# Altium integrated library Altera APEX 20KE.IntLib: 235 symbols (part 21 of 49)
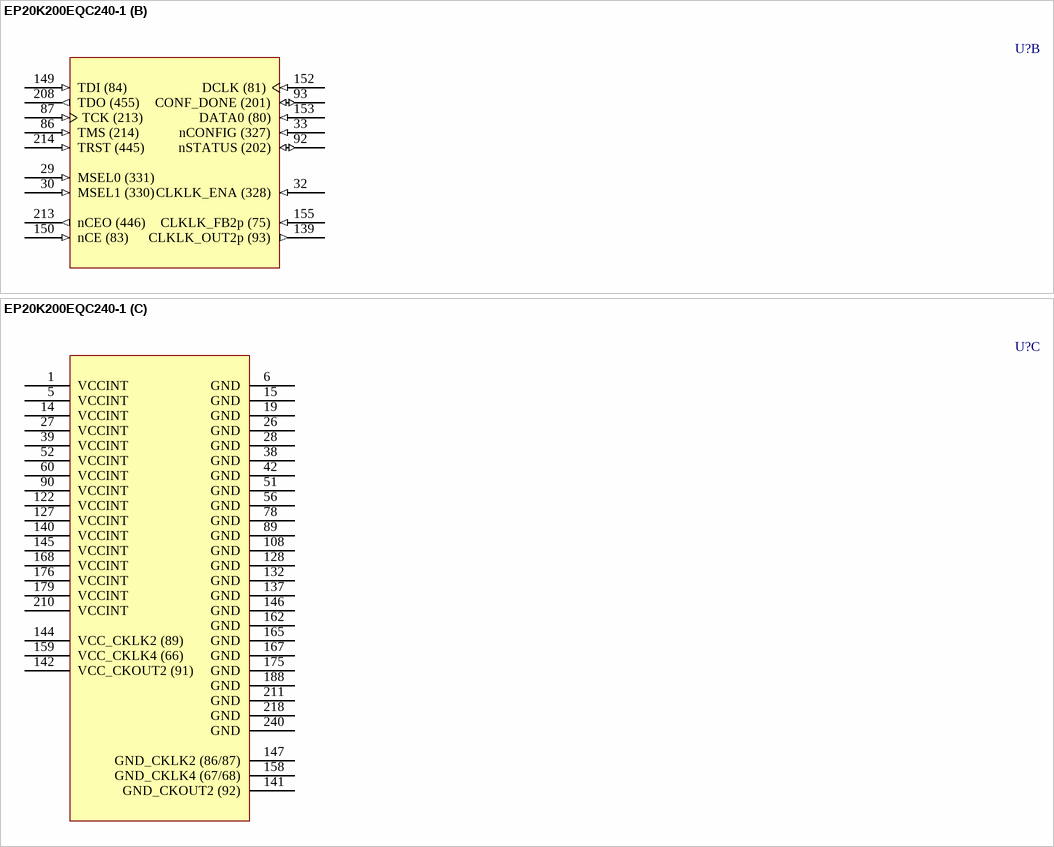
[diagram p419: symbol EP20K200EQC240-1]

## EP20K200EQC240-1
designator U?
APEX 20K200E PLD, 240-Pin PQFP, Commercial Grade, Speed Grade 1; Published: 17-Jul-2002; LatestRevisionDate: 13-Apr-2006; LatestRevisionNote: IPC-7351 Footprint Added.; DatasheetVersion: Mar-2004; PackageVersion: ver14.1, Oct-2005; PackageReference: PQFP240; Publisher: Altium Limited; PackageDescription: 240-Pin Plastic Quad Flat Pack (PQFP240); Code_JEDEC: MS-029-GA; ComponentLink1Description: Manufacturer Link; ComponentLink1URL: http://www.altera.com/products/devices/apex/apx-index.html; ComponentLink2Description: Datasheet; ComponentLink2URL: http://www.altera.com/literature/ds/apex.pdf
footprint PQFP240_N (Shrink QFP, 240-Leads, Body 32x32mm, Pitch 0.5mm, IPC Medium Density)
footprint PQFP240_L (Shrink QFP, 240-Leads, Body 32x32mm, Pitch 0.5mm, IPC High Density)
footprint PQFP240_M (Shrink QFP, 240-Leads, Body 32x32mm, Pitch 0.5mm, IPC Low Density)
3D model EP20K200E-PQFP240 (240-Pin Plastic Quad Flat Pack (PQFP240))
part A pins: 2 IO (407) (io), 3 IO (401) (io), 4 IO (395) (io), 7 IO (391) (io), 8 IO (389) (io), 9 IO (385) (io), 10 IO (383) (io), 11 IO (377) (io), 12 VCCIO3 (power), 13 IO (371) (io), 16 IO (365) (io), 17 IO (359) (io), 18 IO (357) (io), 20 IO (353) (io), 21 IO (351) (io), 22 IO (347) (io), 23 IO (345) (io), 24 IO (341) (io), 25 IO (333) (io), 31 CLK1p (329) (in), 34 CLK3p (324) (in), 35 IO (322) (io), 36 IO (319) (io), 37 IO (318) (io), 40 IO (311) (io), 41 IO (305) (io), 43 IO (301) (io), 44 IO (299) (io), 45 VCCIO4 (power), 46 IO (295) (io), 47 IO (293) (io), 48 IO (287) (io), 49 IO (281) (io), 50 IO (279) (io), 53 IO (275) (io), 54 IO (269) (io), 55 IO (264) (io), 57 IO (259) (io), 58 IO (257) (io), 59 IO (251) (io), 61 IO (247) (io), 62 IO (245) (io), 63 IO (244) (io), 64 IO (242) (io), 65 IO (240) (io), 66 IO (238) (io), 67 VCCIO5 (power), 68 IO (235) (io), 69 IO (234) (io), 70 IO (233) (io), 71 IO (232) (io), 72 IO (231) (io), 73 IO (229) (io), 74 IO (227) (io), 75 IO (226) (io), 76 IO (224) (io), 77 IO (223) (io), 79 IO (222) (io), 80 IO (221) (io), 81 IO (220) (io), 82 IO (218) (io), 83 IO (217) (io), 84 IO (216) (io), 85 IO (215) (io), 88 FAST3 (212) (io), 91 FAST4 (203) (io), 94 IO (200) (io), 95 IO (198) (io), 96 IO (197) (io), 97 VCCIO6 (power), 98 IO (195) (io), 99 IO (194) (io), 100 IO (193) (io), 101 IO (191) (io), 102 IO (190) (io), 103 IO (187) (io), 104 IO (186) (io), 105 IO (185) (io), 106 IO (184) (io), 107 IO (183) (io), 109 IO (181) (io), 110 IO (180) (io), 111 IO (179) (io), 112 IO (177) (io), 113 IO (176) (io), 114 IO (175) (io), 115 IO (173) (io), 116 IO (171) (io), 117 IO (170) (io), 118 IO (169) (io), 119 IO (168) (io), 120 VCCIO6 (power), 121 IO (164) (io), 123 IO (158) (io), 124 IO (152) (io), 125 IO (146) (io), 126 IO (140) (io), 129 IO (134) (io), 130 IO (130) (io), 131 IO (128) (io), 133 IO (123) (io), 134 IO (116) (io), 135 IO/LOCK4 (110) (io), 136 IO (108) (io), 138 IO/LOCK2 (98) (io), 143 IO/DEV_OE (90) (io), 148 VCCIO7 (power), 151 CLK2p (82) (in), 154 CLK4p (77) (in), 156 IO/DEV_CLRn (71) (io), 157 IO/CS (69) (io), 160 IO/nCS (56) (io), 161 IO/nRS (50) (io), 163 IO (44) (io), 164 IO/nWS (38) (io), 166 IO/DATA7 (32) (io), 169 IO/DATA6 (26) (io), 170 IO (24) (io), 171 IO (20) (io), 172 IO (18) (io), 173 IO (14) (io), 174 IO (12) (io), 177 VCCIO8 (power), 178 IO (8) (io), 180 IO (2) (io), 181 IO/DATA5 (489) (io), 182 IO (488) (io), 183 IO (487) (io), 184 IO (486) (io), 185 IO/DATA4 (485) (io), 186 IO (483) (io), 187 IO (482) (io), 189 IO/DATA3 (481) (io), 190 IO (480) (io), 191 IO (478) (io), 192 IO (476) (io), 193 IO (475) (io), 194 IO (474) (io), 195 IO/DATA2 (472) (io), 196 IO (471) (io), 197 IO (470) (io), 198 IO (469) (io), 199 VCCIO1 (power), 200 IO/DATA1 (465) (io), 201 IO (464) (io), 202 IO (463) (io), 203 IO (462) (io), 204 IO/CLKUSR (461) (io), 205 IO/RDYnBSY (459) (io), 206 IO/INIT_DONE (458) (io), 207 IO (457) (io), 209 FAST2 (454) (io), 212 FAST1 (447) (io), 215 IO (444) (io), 216 IO (443) (io), 217 IO (442) (io), 219 IO (439) (io), 220 IO (437) (io), 221 IO (436) (io), 222 IO (435) (io), 223 IO (434) (io), 224 IO (432) (io), 225 IO (431) (io), 226 IO (430) (io), 227 IO (429) (io), 228 IO (427) (io), 229 VCCIO2 (power), 230 IO (424) (io), 231 IO (423) (io), 232 IO (422) (io), 233 IO (420) (io), 234 IO (419) (io), 235 IO (417) (io), 236 IO (415) (io), 237 IO (413) (io), 238 IO (412) (io), 239 IO (411) (io)
part B pins: 29 MSEL0 (331) (in), 30 MSEL1 (330) (in), 32 CLKLK_ENA (328) (in), 33 nCONFIG (327) (in), 86 TMS (214) (in), 87 TCK (213) (in), 92 nSTATUS (202) (io), 93 CONF_DONE (201) (io), 139 CLKLK_OUT2p (93) (out), 149 TDI (84) (in), 150 nCE (83) (in), 152 DCLK (81) (in), 153 DATA0 (80) (in), 155 CLKLK_FB2p (75) (in), 208 TDO (455) (out), 213 nCEO (446) (out), 214 TRST (445) (in)
part C pins: 1 VCCINT (power), 5 VCCINT (power), 6 GND (power), 14 VCCINT (power), 15 GND (power), 19 GND (power), 26 GND (power), 27 VCCINT (power), 28 GND (power), 38 GND (power), 39 VCCINT (power), 42 GND (power), 51 GND (power), 52 VCCINT (power), 56 GND (power), 60 VCCINT (power), 78 GND (power), 89 GND (power), 90 VCCINT (power), 108 GND (power), 122 VCCINT (power), 127 VCCINT (power), 128 GND (power), 132 GND (power), 137 GND (power), 140 VCCINT (power), 141 GND_CKOUT2 (92) (power), 142 VCC_CKOUT2 (91) (power), 144 VCC_CKLK2 (89) (power), 145 VCCINT (power), 146 GND (power), 147 GND_CKLK2 (86/87) (power), 158 GND_CKLK4 (67/68) (power), 159 VCC_CKLK4 (66) (power), 162 GND (power), 165 GND (power), 167 GND (power), 168 VCCINT (power), 175 GND (power), 176 VCCINT (power), 179 VCCINT (power), 188 GND (power), 210 VCCINT (power), 211 GND (power), 218 GND (power), 240 GND (power)

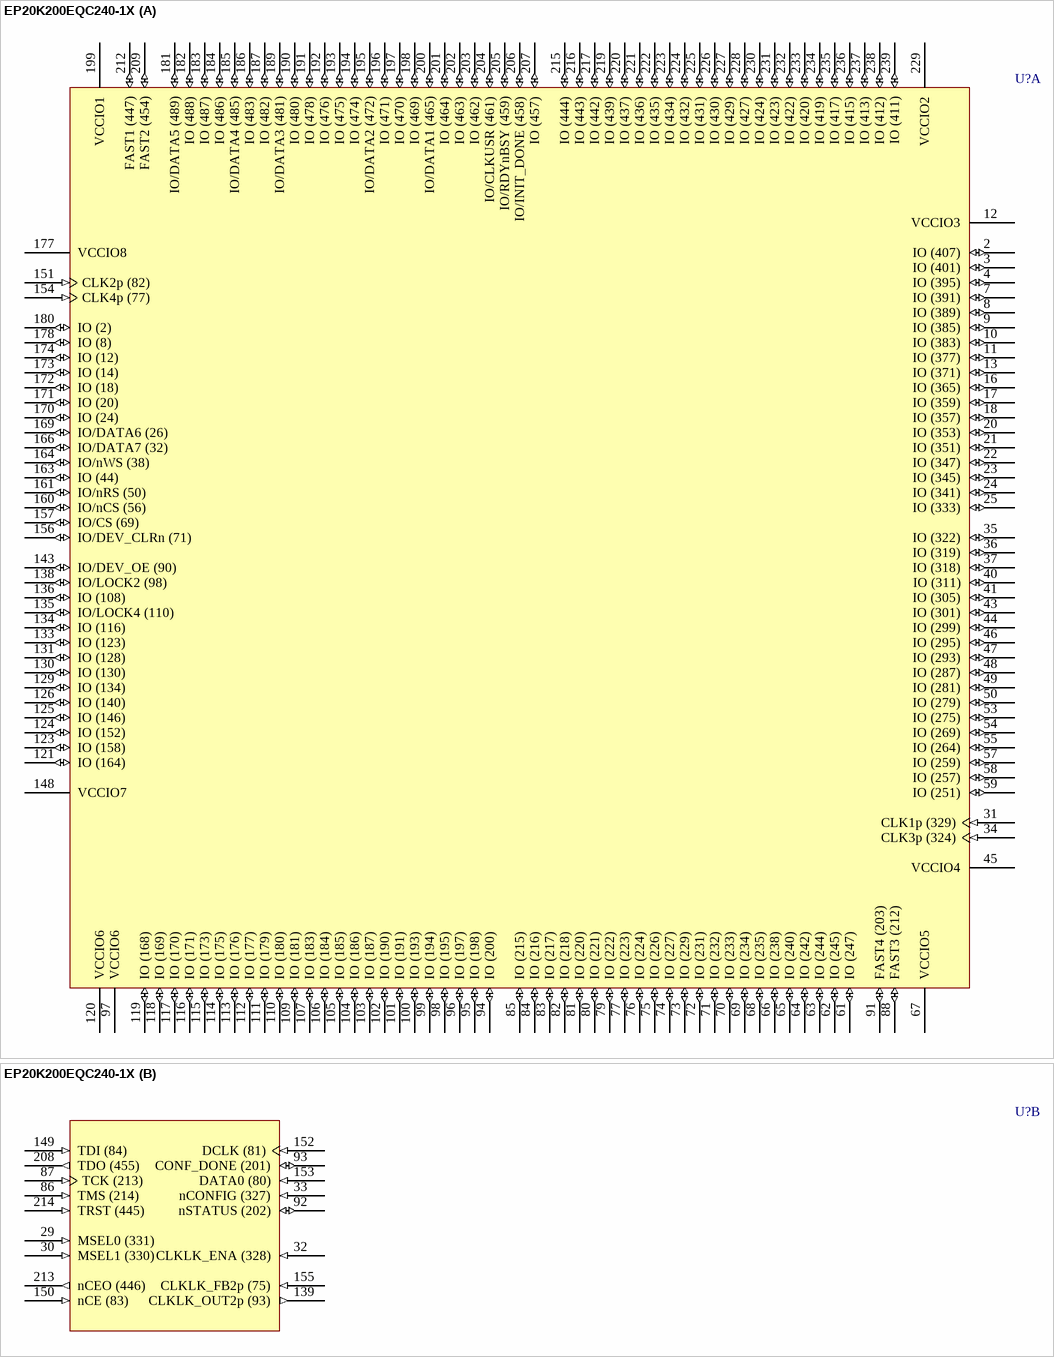
[diagram p208: symbol EP20K200EQC240-1X]

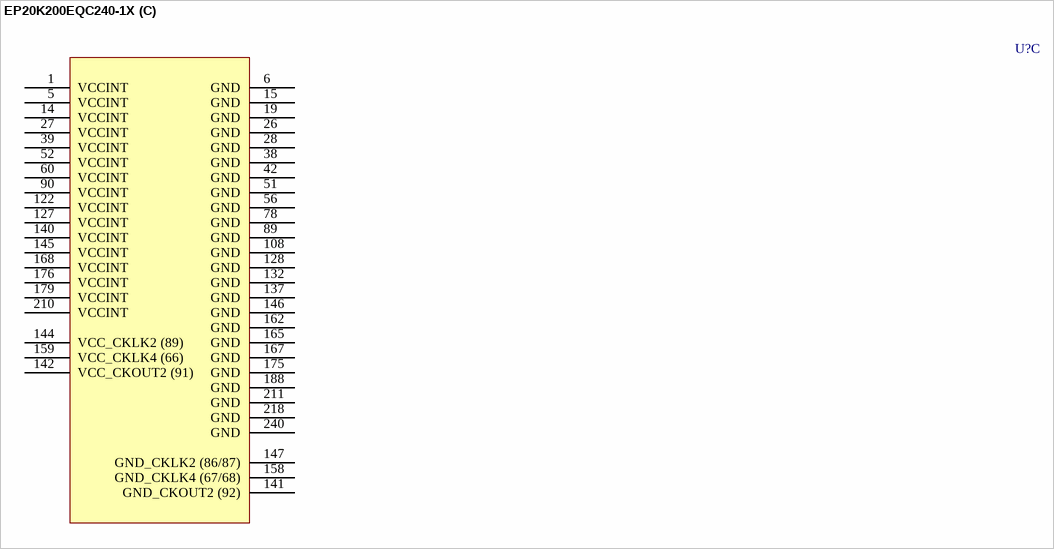
[diagram p209: symbol EP20K200EQC240-1X]

## EP20K200EQC240-1X
designator U?
APEX 20K200E PLD with PLLs and LVDS, 240-Pin PQFP, Commercial Grade, Speed Grade 1; Published: 17-Jul-2002; LatestRevisionDate: 13-Apr-2006; LatestRevisionNote: IPC-7351 Footprint Added.; DatasheetVersion: Mar-2004; PackageVersion: ver14.1, Oct-2005; PackageReference: PQFP240; Publisher: Altium Limited; PackageDescription: 240-Pin Plastic Quad Flat Pack (PQFP240); Code_JEDEC: MS-029-GA; ComponentLink1Description: Manufacturer Link; ComponentLink1URL: http://www.altera.com/products/devices/apex/apx-index.html; ComponentLink2Description: Datasheet; ComponentLink2URL: http://www.altera.com/literature/ds/apex.pdf
footprint PQFP240_N (Shrink QFP, 240-Leads, Body 32x32mm, Pitch 0.5mm, IPC Medium Density)
footprint PQFP240_L (Shrink QFP, 240-Leads, Body 32x32mm, Pitch 0.5mm, IPC High Density)
footprint PQFP240_M (Shrink QFP, 240-Leads, Body 32x32mm, Pitch 0.5mm, IPC Low Density)
3D model EP20K200E-PQFP240 (240-Pin Plastic Quad Flat Pack (PQFP240))
part A pins: 2 IO (407) (io), 3 IO (401) (io), 4 IO (395) (io), 7 IO (391) (io), 8 IO (389) (io), 9 IO (385) (io), 10 IO (383) (io), 11 IO (377) (io), 12 VCCIO3 (power), 13 IO (371) (io), 16 IO (365) (io), 17 IO (359) (io), 18 IO (357) (io), 20 IO (353) (io), 21 IO (351) (io), 22 IO (347) (io), 23 IO (345) (io), 24 IO (341) (io), 25 IO (333) (io), 31 CLK1p (329) (in), 34 CLK3p (324) (in), 35 IO (322) (io), 36 IO (319) (io), 37 IO (318) (io), 40 IO (311) (io), 41 IO (305) (io), 43 IO (301) (io), 44 IO (299) (io), 45 VCCIO4 (power), 46 IO (295) (io), 47 IO (293) (io), 48 IO (287) (io), 49 IO (281) (io), 50 IO (279) (io), 53 IO (275) (io), 54 IO (269) (io), 55 IO (264) (io), 57 IO (259) (io), 58 IO (257) (io), 59 IO (251) (io), 61 IO (247) (io), 62 IO (245) (io), 63 IO (244) (io), 64 IO (242) (io), 65 IO (240) (io), 66 IO (238) (io), 67 VCCIO5 (power), 68 IO (235) (io), 69 IO (234) (io), 70 IO (233) (io), 71 IO (232) (io), 72 IO (231) (io), 73 IO (229) (io), 74 IO (227) (io), 75 IO (226) (io), 76 IO (224) (io), 77 IO (223) (io), 79 IO (222) (io), 80 IO (221) (io), 81 IO (220) (io), 82 IO (218) (io), 83 IO (217) (io), 84 IO (216) (io), 85 IO (215) (io), 88 FAST3 (212) (io), 91 FAST4 (203) (io), 94 IO (200) (io), 95 IO (198) (io), 96 IO (197) (io), 97 VCCIO6 (power), 98 IO (195) (io), 99 IO (194) (io), 100 IO (193) (io), 101 IO (191) (io), 102 IO (190) (io), 103 IO (187) (io), 104 IO (186) (io), 105 IO (185) (io), 106 IO (184) (io), 107 IO (183) (io), 109 IO (181) (io), 110 IO (180) (io), 111 IO (179) (io), 112 IO (177) (io), 113 IO (176) (io), 114 IO (175) (io), 115 IO (173) (io), 116 IO (171) (io), 117 IO (170) (io), 118 IO (169) (io), 119 IO (168) (io), 120 VCCIO6 (power), 121 IO (164) (io), 123 IO (158) (io), 124 IO (152) (io), 125 IO (146) (io), 126 IO (140) (io), 129 IO (134) (io), 130 IO (130) (io), 131 IO (128) (io), 133 IO (123) (io), 134 IO (116) (io), 135 IO/LOCK4 (110) (io), 136 IO (108) (io), 138 IO/LOCK2 (98) (io), 143 IO/DEV_OE (90) (io), 148 VCCIO7 (power), 151 CLK2p (82) (in), 154 CLK4p (77) (in), 156 IO/DEV_CLRn (71) (io), 157 IO/CS (69) (io), 160 IO/nCS (56) (io), 161 IO/nRS (50) (io), 163 IO (44) (io), 164 IO/nWS (38) (io), 166 IO/DATA7 (32) (io), 169 IO/DATA6 (26) (io), 170 IO (24) (io), 171 IO (20) (io), 172 IO (18) (io), 173 IO (14) (io), 174 IO (12) (io), 177 VCCIO8 (power), 178 IO (8) (io), 180 IO (2) (io), 181 IO/DATA5 (489) (io), 182 IO (488) (io), 183 IO (487) (io), 184 IO (486) (io), 185 IO/DATA4 (485) (io), 186 IO (483) (io), 187 IO (482) (io), 189 IO/DATA3 (481) (io), 190 IO (480) (io), 191 IO (478) (io), 192 IO (476) (io), 193 IO (475) (io), 194 IO (474) (io), 195 IO/DATA2 (472) (io), 196 IO (471) (io), 197 IO (470) (io), 198 IO (469) (io), 199 VCCIO1 (power), 200 IO/DATA1 (465) (io), 201 IO (464) (io), 202 IO (463) (io), 203 IO (462) (io), 204 IO/CLKUSR (461) (io), 205 IO/RDYnBSY (459) (io), 206 IO/INIT_DONE (458) (io), 207 IO (457) (io), 209 FAST2 (454) (io), 212 FAST1 (447) (io), 215 IO (444) (io), 216 IO (443) (io), 217 IO (442) (io), 219 IO (439) (io), 220 IO (437) (io), 221 IO (436) (io), 222 IO (435) (io), 223 IO (434) (io), 224 IO (432) (io), 225 IO (431) (io), 226 IO (430) (io), 227 IO (429) (io), 228 IO (427) (io), 229 VCCIO2 (power), 230 IO (424) (io), 231 IO (423) (io), 232 IO (422) (io), 233 IO (420) (io), 234 IO (419) (io), 235 IO (417) (io), 236 IO (415) (io), 237 IO (413) (io), 238 IO (412) (io), 239 IO (411) (io)
part B pins: 29 MSEL0 (331) (in), 30 MSEL1 (330) (in), 32 CLKLK_ENA (328) (in), 33 nCONFIG (327) (in), 86 TMS (214) (in), 87 TCK (213) (in), 92 nSTATUS (202) (io), 93 CONF_DONE (201) (io), 139 CLKLK_OUT2p (93) (out), 149 TDI (84) (in), 150 nCE (83) (in), 152 DCLK (81) (in), 153 DATA0 (80) (in), 155 CLKLK_FB2p (75) (in), 208 TDO (455) (out), 213 nCEO (446) (out), 214 TRST (445) (in)
part C pins: 1 VCCINT (power), 5 VCCINT (power), 6 GND (power), 14 VCCINT (power), 15 GND (power), 19 GND (power), 26 GND (power), 27 VCCINT (power), 28 GND (power), 38 GND (power), 39 VCCINT (power), 42 GND (power), 51 GND (power), 52 VCCINT (power), 56 GND (power), 60 VCCINT (power), 78 GND (power), 89 GND (power), 90 VCCINT (power), 108 GND (power), 122 VCCINT (power), 127 VCCINT (power), 128 GND (power), 132 GND (power), 137 GND (power), 140 VCCINT (power), 141 GND_CKOUT2 (92) (power), 142 VCC_CKOUT2 (91) (power), 144 VCC_CKLK2 (89) (power), 145 VCCINT (power), 146 GND (power), 147 GND_CKLK2 (86/87) (power), 158 GND_CKLK4 (67/68) (power), 159 VCC_CKLK4 (66) (power), 162 GND (power), 165 GND (power), 167 GND (power), 168 VCCINT (power), 175 GND (power), 176 VCCINT (power), 179 VCCINT (power), 188 GND (power), 210 VCCINT (power), 211 GND (power), 218 GND (power), 240 GND (power)

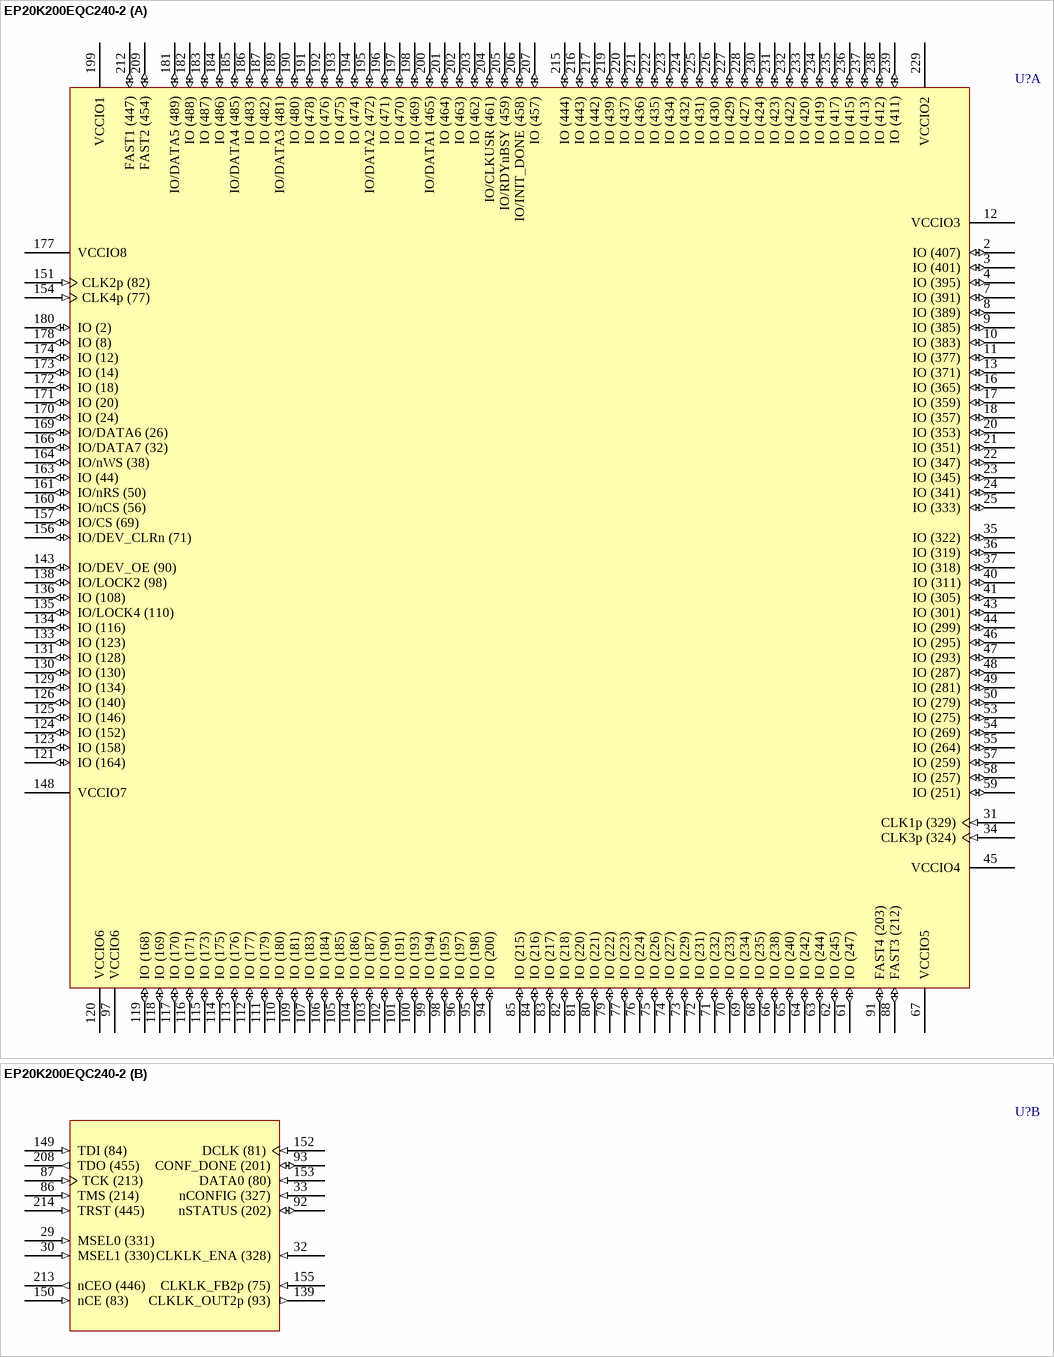
[diagram p210: symbol EP20K200EQC240-2]

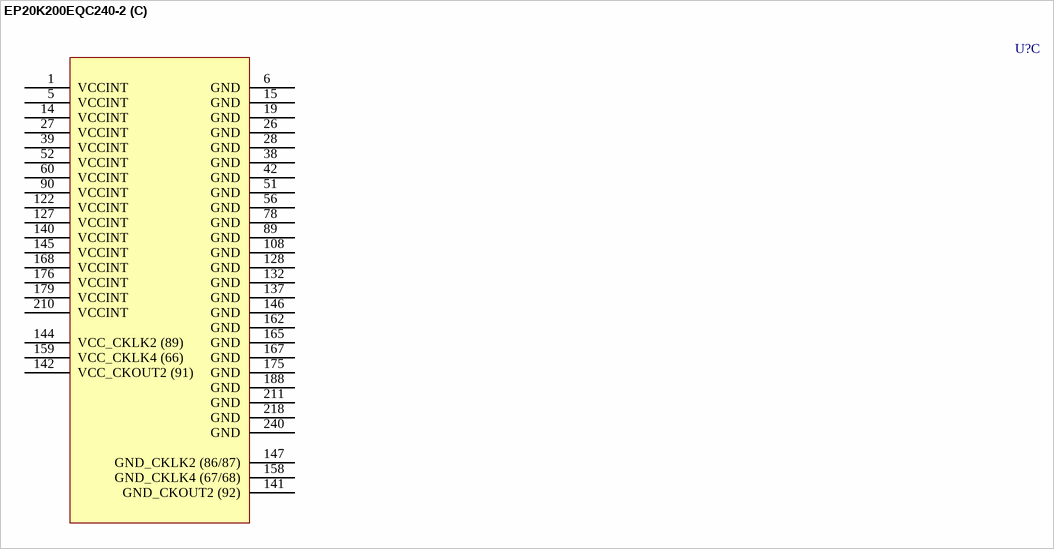
[diagram p211: symbol EP20K200EQC240-2]

## EP20K200EQC240-2
designator U?
APEX 20K200E PLD, 240-Pin PQFP, Commercial Grade, Speed Grade 2; Published: 17-Jul-2002; LatestRevisionDate: 13-Apr-2006; LatestRevisionNote: IPC-7351 Footprint Added.; DatasheetVersion: Mar-2004; PackageVersion: ver14.1, Oct-2005; PackageReference: PQFP240; Publisher: Altium Limited; PackageDescription: 240-Pin Plastic Quad Flat Pack (PQFP240); Code_JEDEC: MS-029-GA; ComponentLink1Description: Manufacturer Link; ComponentLink1URL: http://www.altera.com/products/devices/apex/apx-index.html; ComponentLink2Description: Datasheet; ComponentLink2URL: http://www.altera.com/literature/ds/apex.pdf
footprint PQFP240_N (Shrink QFP, 240-Leads, Body 32x32mm, Pitch 0.5mm, IPC Medium Density)
footprint PQFP240_L (Shrink QFP, 240-Leads, Body 32x32mm, Pitch 0.5mm, IPC High Density)
footprint PQFP240_M (Shrink QFP, 240-Leads, Body 32x32mm, Pitch 0.5mm, IPC Low Density)
3D model EP20K200E-PQFP240 (240-Pin Plastic Quad Flat Pack (PQFP240))
part A pins: 2 IO (407) (io), 3 IO (401) (io), 4 IO (395) (io), 7 IO (391) (io), 8 IO (389) (io), 9 IO (385) (io), 10 IO (383) (io), 11 IO (377) (io), 12 VCCIO3 (power), 13 IO (371) (io), 16 IO (365) (io), 17 IO (359) (io), 18 IO (357) (io), 20 IO (353) (io), 21 IO (351) (io), 22 IO (347) (io), 23 IO (345) (io), 24 IO (341) (io), 25 IO (333) (io), 31 CLK1p (329) (in), 34 CLK3p (324) (in), 35 IO (322) (io), 36 IO (319) (io), 37 IO (318) (io), 40 IO (311) (io), 41 IO (305) (io), 43 IO (301) (io), 44 IO (299) (io), 45 VCCIO4 (power), 46 IO (295) (io), 47 IO (293) (io), 48 IO (287) (io), 49 IO (281) (io), 50 IO (279) (io), 53 IO (275) (io), 54 IO (269) (io), 55 IO (264) (io), 57 IO (259) (io), 58 IO (257) (io), 59 IO (251) (io), 61 IO (247) (io), 62 IO (245) (io), 63 IO (244) (io), 64 IO (242) (io), 65 IO (240) (io), 66 IO (238) (io), 67 VCCIO5 (power), 68 IO (235) (io), 69 IO (234) (io), 70 IO (233) (io), 71 IO (232) (io), 72 IO (231) (io), 73 IO (229) (io), 74 IO (227) (io), 75 IO (226) (io), 76 IO (224) (io), 77 IO (223) (io), 79 IO (222) (io), 80 IO (221) (io), 81 IO (220) (io), 82 IO (218) (io), 83 IO (217) (io), 84 IO (216) (io), 85 IO (215) (io), 88 FAST3 (212) (io), 91 FAST4 (203) (io), 94 IO (200) (io), 95 IO (198) (io), 96 IO (197) (io), 97 VCCIO6 (power), 98 IO (195) (io), 99 IO (194) (io), 100 IO (193) (io), 101 IO (191) (io), 102 IO (190) (io), 103 IO (187) (io), 104 IO (186) (io), 105 IO (185) (io), 106 IO (184) (io), 107 IO (183) (io), 109 IO (181) (io), 110 IO (180) (io), 111 IO (179) (io), 112 IO (177) (io), 113 IO (176) (io), 114 IO (175) (io), 115 IO (173) (io), 116 IO (171) (io), 117 IO (170) (io), 118 IO (169) (io), 119 IO (168) (io), 120 VCCIO6 (power), 121 IO (164) (io), 123 IO (158) (io), 124 IO (152) (io), 125 IO (146) (io), 126 IO (140) (io), 129 IO (134) (io), 130 IO (130) (io), 131 IO (128) (io), 133 IO (123) (io), 134 IO (116) (io), 135 IO/LOCK4 (110) (io), 136 IO (108) (io), 138 IO/LOCK2 (98) (io), 143 IO/DEV_OE (90) (io), 148 VCCIO7 (power), 151 CLK2p (82) (in), 154 CLK4p (77) (in), 156 IO/DEV_CLRn (71) (io), 157 IO/CS (69) (io), 160 IO/nCS (56) (io), 161 IO/nRS (50) (io), 163 IO (44) (io), 164 IO/nWS (38) (io), 166 IO/DATA7 (32) (io), 169 IO/DATA6 (26) (io), 170 IO (24) (io), 171 IO (20) (io), 172 IO (18) (io), 173 IO (14) (io), 174 IO (12) (io), 177 VCCIO8 (power), 178 IO (8) (io), 180 IO (2) (io), 181 IO/DATA5 (489) (io), 182 IO (488) (io), 183 IO (487) (io), 184 IO (486) (io), 185 IO/DATA4 (485) (io), 186 IO (483) (io), 187 IO (482) (io), 189 IO/DATA3 (481) (io), 190 IO (480) (io), 191 IO (478) (io), 192 IO (476) (io), 193 IO (475) (io), 194 IO (474) (io), 195 IO/DATA2 (472) (io), 196 IO (471) (io), 197 IO (470) (io), 198 IO (469) (io), 199 VCCIO1 (power), 200 IO/DATA1 (465) (io), 201 IO (464) (io), 202 IO (463) (io), 203 IO (462) (io), 204 IO/CLKUSR (461) (io), 205 IO/RDYnBSY (459) (io), 206 IO/INIT_DONE (458) (io), 207 IO (457) (io), 209 FAST2 (454) (io), 212 FAST1 (447) (io), 215 IO (444) (io), 216 IO (443) (io), 217 IO (442) (io), 219 IO (439) (io), 220 IO (437) (io), 221 IO (436) (io), 222 IO (435) (io), 223 IO (434) (io), 224 IO (432) (io), 225 IO (431) (io), 226 IO (430) (io), 227 IO (429) (io), 228 IO (427) (io), 229 VCCIO2 (power), 230 IO (424) (io), 231 IO (423) (io), 232 IO (422) (io), 233 IO (420) (io), 234 IO (419) (io), 235 IO (417) (io), 236 IO (415) (io), 237 IO (413) (io), 238 IO (412) (io), 239 IO (411) (io)
part B pins: 29 MSEL0 (331) (in), 30 MSEL1 (330) (in), 32 CLKLK_ENA (328) (in), 33 nCONFIG (327) (in), 86 TMS (214) (in), 87 TCK (213) (in), 92 nSTATUS (202) (io), 93 CONF_DONE (201) (io), 139 CLKLK_OUT2p (93) (out), 149 TDI (84) (in), 150 nCE (83) (in), 152 DCLK (81) (in), 153 DATA0 (80) (in), 155 CLKLK_FB2p (75) (in), 208 TDO (455) (out), 213 nCEO (446) (out), 214 TRST (445) (in)
part C pins: 1 VCCINT (power), 5 VCCINT (power), 6 GND (power), 14 VCCINT (power), 15 GND (power), 19 GND (power), 26 GND (power), 27 VCCINT (power), 28 GND (power), 38 GND (power), 39 VCCINT (power), 42 GND (power), 51 GND (power), 52 VCCINT (power), 56 GND (power), 60 VCCINT (power), 78 GND (power), 89 GND (power), 90 VCCINT (power), 108 GND (power), 122 VCCINT (power), 127 VCCINT (power), 128 GND (power), 132 GND (power), 137 GND (power), 140 VCCINT (power), 141 GND_CKOUT2 (92) (power), 142 VCC_CKOUT2 (91) (power), 144 VCC_CKLK2 (89) (power), 145 VCCINT (power), 146 GND (power), 147 GND_CKLK2 (86/87) (power), 158 GND_CKLK4 (67/68) (power), 159 VCC_CKLK4 (66) (power), 162 GND (power), 165 GND (power), 167 GND (power), 168 VCCINT (power), 175 GND (power), 176 VCCINT (power), 179 VCCINT (power), 188 GND (power), 210 VCCINT (power), 211 GND (power), 218 GND (power), 240 GND (power)

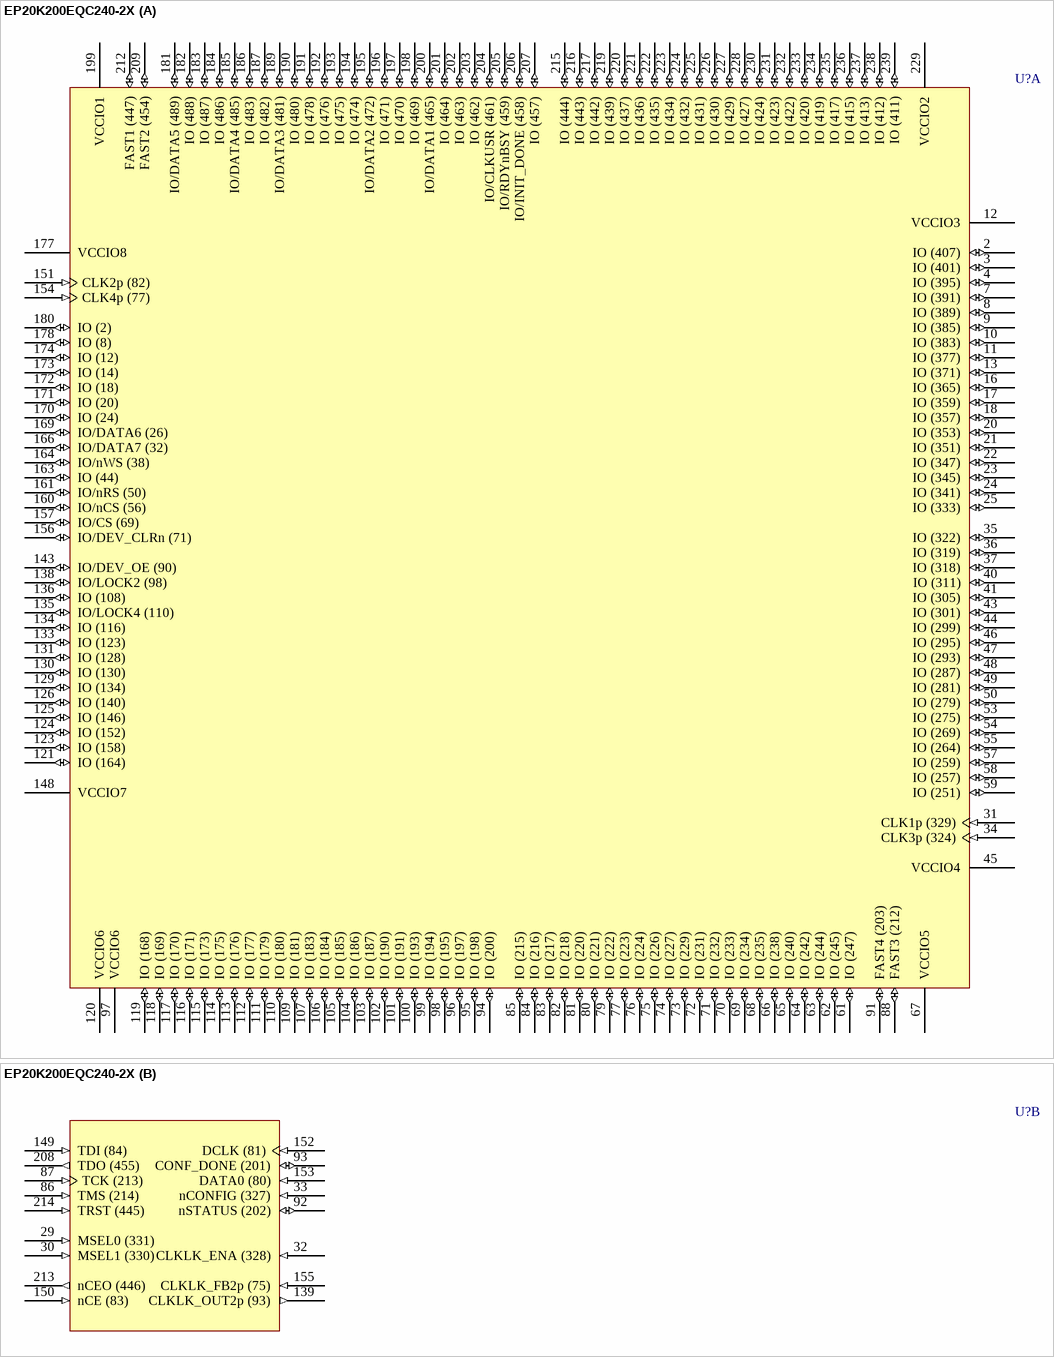
[diagram p212: symbol EP20K200EQC240-2X]

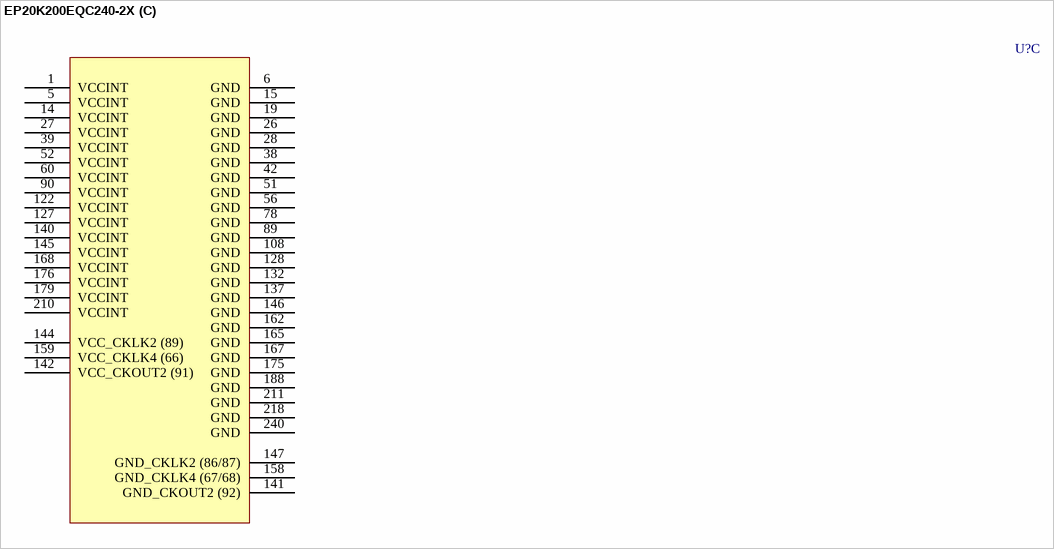
[diagram p213: symbol EP20K200EQC240-2X]

## EP20K200EQC240-2X
designator U?
APEX 20K200E PLD with PLLs and LVDS, 240-Pin PQFP, Commercial Grade, Speed Grade 2; Published: 17-Jul-2002; LatestRevisionDate: 13-Apr-2006; LatestRevisionNote: IPC-7351 Footprint Added.; DatasheetVersion: Mar-2004; PackageVersion: ver14.1, Oct-2005; PackageReference: PQFP240; Publisher: Altium Limited; PackageDescription: 240-Pin Plastic Quad Flat Pack (PQFP240); Code_JEDEC: MS-029-GA; ComponentLink1Description: Manufacturer Link; ComponentLink1URL: http://www.altera.com/products/devices/apex/apx-index.html; ComponentLink2Description: Datasheet; ComponentLink2URL: http://www.altera.com/literature/ds/apex.pdf
footprint PQFP240_N (Shrink QFP, 240-Leads, Body 32x32mm, Pitch 0.5mm, IPC Medium Density)
footprint PQFP240_L (Shrink QFP, 240-Leads, Body 32x32mm, Pitch 0.5mm, IPC High Density)
footprint PQFP240_M (Shrink QFP, 240-Leads, Body 32x32mm, Pitch 0.5mm, IPC Low Density)
3D model EP20K200E-PQFP240 (240-Pin Plastic Quad Flat Pack (PQFP240))
part A pins: 2 IO (407) (io), 3 IO (401) (io), 4 IO (395) (io), 7 IO (391) (io), 8 IO (389) (io), 9 IO (385) (io), 10 IO (383) (io), 11 IO (377) (io), 12 VCCIO3 (power), 13 IO (371) (io), 16 IO (365) (io), 17 IO (359) (io), 18 IO (357) (io), 20 IO (353) (io), 21 IO (351) (io), 22 IO (347) (io), 23 IO (345) (io), 24 IO (341) (io), 25 IO (333) (io), 31 CLK1p (329) (in), 34 CLK3p (324) (in), 35 IO (322) (io), 36 IO (319) (io), 37 IO (318) (io), 40 IO (311) (io), 41 IO (305) (io), 43 IO (301) (io), 44 IO (299) (io), 45 VCCIO4 (power), 46 IO (295) (io), 47 IO (293) (io), 48 IO (287) (io), 49 IO (281) (io), 50 IO (279) (io), 53 IO (275) (io), 54 IO (269) (io), 55 IO (264) (io), 57 IO (259) (io), 58 IO (257) (io), 59 IO (251) (io), 61 IO (247) (io), 62 IO (245) (io), 63 IO (244) (io), 64 IO (242) (io), 65 IO (240) (io), 66 IO (238) (io), 67 VCCIO5 (power), 68 IO (235) (io), 69 IO (234) (io), 70 IO (233) (io), 71 IO (232) (io), 72 IO (231) (io), 73 IO (229) (io), 74 IO (227) (io), 75 IO (226) (io), 76 IO (224) (io), 77 IO (223) (io), 79 IO (222) (io), 80 IO (221) (io), 81 IO (220) (io), 82 IO (218) (io), 83 IO (217) (io), 84 IO (216) (io), 85 IO (215) (io), 88 FAST3 (212) (io), 91 FAST4 (203) (io), 94 IO (200) (io), 95 IO (198) (io), 96 IO (197) (io), 97 VCCIO6 (power), 98 IO (195) (io), 99 IO (194) (io), 100 IO (193) (io), 101 IO (191) (io), 102 IO (190) (io), 103 IO (187) (io), 104 IO (186) (io), 105 IO (185) (io), 106 IO (184) (io), 107 IO (183) (io), 109 IO (181) (io), 110 IO (180) (io), 111 IO (179) (io), 112 IO (177) (io), 113 IO (176) (io), 114 IO (175) (io), 115 IO (173) (io), 116 IO (171) (io), 117 IO (170) (io), 118 IO (169) (io), 119 IO (168) (io), 120 VCCIO6 (power), 121 IO (164) (io), 123 IO (158) (io), 124 IO (152) (io), 125 IO (146) (io), 126 IO (140) (io), 129 IO (134) (io), 130 IO (130) (io), 131 IO (128) (io), 133 IO (123) (io), 134 IO (116) (io), 135 IO/LOCK4 (110) (io), 136 IO (108) (io), 138 IO/LOCK2 (98) (io), 143 IO/DEV_OE (90) (io), 148 VCCIO7 (power), 151 CLK2p (82) (in), 154 CLK4p (77) (in), 156 IO/DEV_CLRn (71) (io), 157 IO/CS (69) (io), 160 IO/nCS (56) (io), 161 IO/nRS (50) (io), 163 IO (44) (io), 164 IO/nWS (38) (io), 166 IO/DATA7 (32) (io), 169 IO/DATA6 (26) (io), 170 IO (24) (io), 171 IO (20) (io), 172 IO (18) (io), 173 IO (14) (io), 174 IO (12) (io), 177 VCCIO8 (power), 178 IO (8) (io), 180 IO (2) (io), 181 IO/DATA5 (489) (io), 182 IO (488) (io), 183 IO (487) (io), 184 IO (486) (io), 185 IO/DATA4 (485) (io), 186 IO (483) (io), 187 IO (482) (io), 189 IO/DATA3 (481) (io), 190 IO (480) (io), 191 IO (478) (io), 192 IO (476) (io), 193 IO (475) (io), 194 IO (474) (io), 195 IO/DATA2 (472) (io), 196 IO (471) (io), 197 IO (470) (io), 198 IO (469) (io), 199 VCCIO1 (power), 200 IO/DATA1 (465) (io), 201 IO (464) (io), 202 IO (463) (io), 203 IO (462) (io), 204 IO/CLKUSR (461) (io), 205 IO/RDYnBSY (459) (io), 206 IO/INIT_DONE (458) (io), 207 IO (457) (io), 209 FAST2 (454) (io), 212 FAST1 (447) (io), 215 IO (444) (io), 216 IO (443) (io), 217 IO (442) (io), 219 IO (439) (io), 220 IO (437) (io), 221 IO (436) (io), 222 IO (435) (io), 223 IO (434) (io), 224 IO (432) (io), 225 IO (431) (io), 226 IO (430) (io), 227 IO (429) (io), 228 IO (427) (io), 229 VCCIO2 (power), 230 IO (424) (io), 231 IO (423) (io), 232 IO (422) (io), 233 IO (420) (io), 234 IO (419) (io), 235 IO (417) (io), 236 IO (415) (io), 237 IO (413) (io), 238 IO (412) (io), 239 IO (411) (io)
part B pins: 29 MSEL0 (331) (in), 30 MSEL1 (330) (in), 32 CLKLK_ENA (328) (in), 33 nCONFIG (327) (in), 86 TMS (214) (in), 87 TCK (213) (in), 92 nSTATUS (202) (io), 93 CONF_DONE (201) (io), 139 CLKLK_OUT2p (93) (out), 149 TDI (84) (in), 150 nCE (83) (in), 152 DCLK (81) (in), 153 DATA0 (80) (in), 155 CLKLK_FB2p (75) (in), 208 TDO (455) (out), 213 nCEO (446) (out), 214 TRST (445) (in)
part C pins: 1 VCCINT (power), 5 VCCINT (power), 6 GND (power), 14 VCCINT (power), 15 GND (power), 19 GND (power), 26 GND (power), 27 VCCINT (power), 28 GND (power), 38 GND (power), 39 VCCINT (power), 42 GND (power), 51 GND (power), 52 VCCINT (power), 56 GND (power), 60 VCCINT (power), 78 GND (power), 89 GND (power), 90 VCCINT (power), 108 GND (power), 122 VCCINT (power), 127 VCCINT (power), 128 GND (power), 132 GND (power), 137 GND (power), 140 VCCINT (power), 141 GND_CKOUT2 (92) (power), 142 VCC_CKOUT2 (91) (power), 144 VCC_CKLK2 (89) (power), 145 VCCINT (power), 146 GND (power), 147 GND_CKLK2 (86/87) (power), 158 GND_CKLK4 (67/68) (power), 159 VCC_CKLK4 (66) (power), 162 GND (power), 165 GND (power), 167 GND (power), 168 VCCINT (power), 175 GND (power), 176 VCCINT (power), 179 VCCINT (power), 188 GND (power), 210 VCCINT (power), 211 GND (power), 218 GND (power), 240 GND (power)

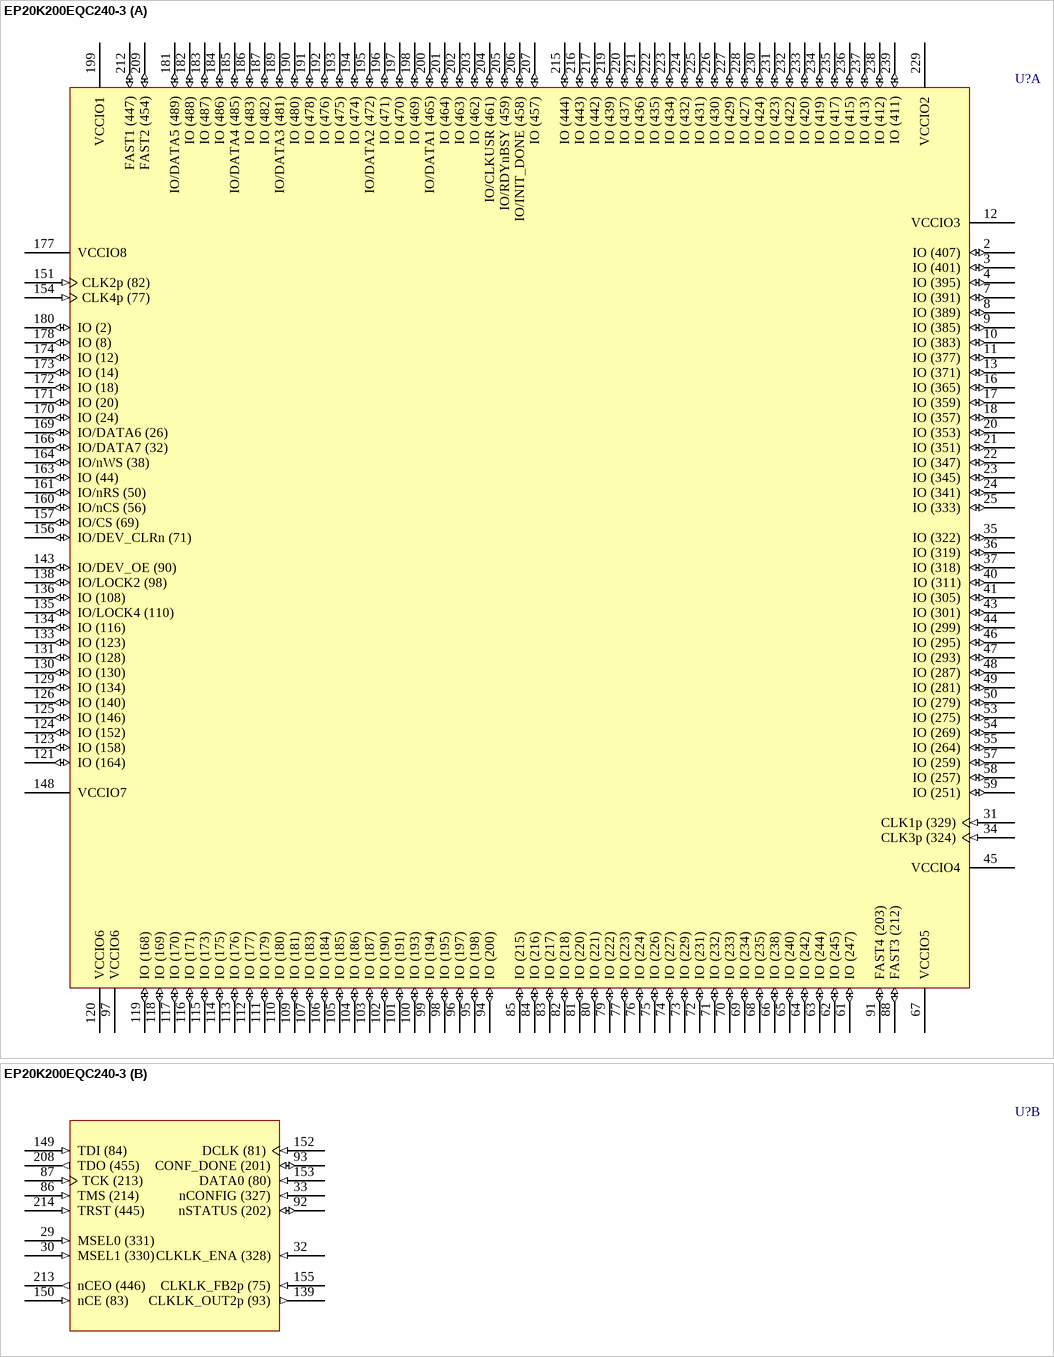
[diagram p214: symbol EP20K200EQC240-3]

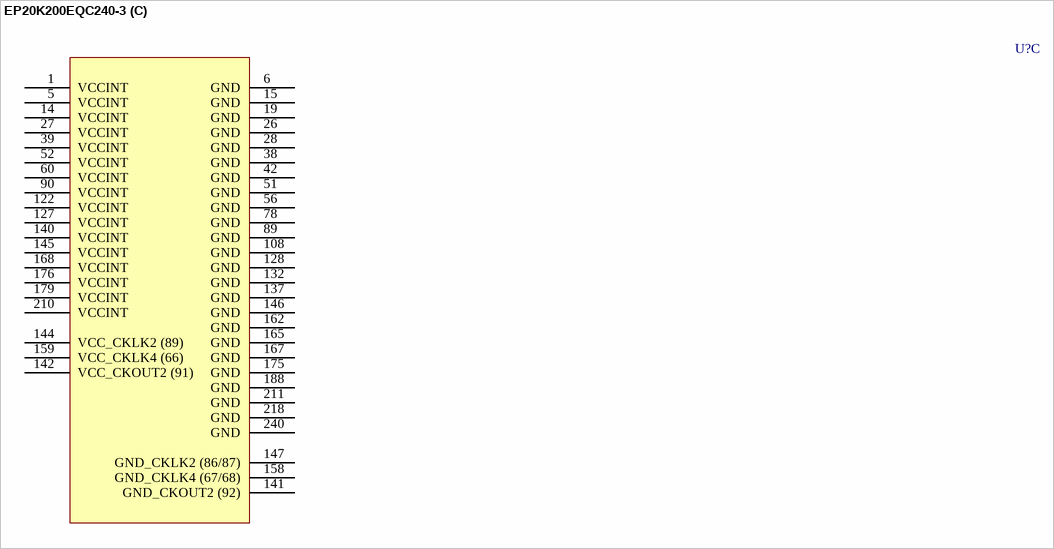
[diagram p215: symbol EP20K200EQC240-3]

## EP20K200EQC240-3
designator U?
APEX 20K200E PLD, 240-Pin PQFP, Commercial Grade, Speed Grade 3; Published: 17-Jul-2002; LatestRevisionDate: 13-Apr-2006; LatestRevisionNote: IPC-7351 Footprint Added.; DatasheetVersion: Mar-2004; PackageVersion: ver14.1, Oct-2005; PackageReference: PQFP240; Publisher: Altium Limited; PackageDescription: 240-Pin Plastic Quad Flat Pack (PQFP240); Code_JEDEC: MS-029-GA; ComponentLink1Description: Manufacturer Link; ComponentLink1URL: http://www.altera.com/products/devices/apex/apx-index.html; ComponentLink2Description: Datasheet; ComponentLink2URL: http://www.altera.com/literature/ds/apex.pdf
footprint PQFP240_N (Shrink QFP, 240-Leads, Body 32x32mm, Pitch 0.5mm, IPC Medium Density)
footprint PQFP240_L (Shrink QFP, 240-Leads, Body 32x32mm, Pitch 0.5mm, IPC High Density)
footprint PQFP240_M (Shrink QFP, 240-Leads, Body 32x32mm, Pitch 0.5mm, IPC Low Density)
3D model EP20K200E-PQFP240 (240-Pin Plastic Quad Flat Pack (PQFP240))
part A pins: 2 IO (407) (io), 3 IO (401) (io), 4 IO (395) (io), 7 IO (391) (io), 8 IO (389) (io), 9 IO (385) (io), 10 IO (383) (io), 11 IO (377) (io), 12 VCCIO3 (power), 13 IO (371) (io), 16 IO (365) (io), 17 IO (359) (io), 18 IO (357) (io), 20 IO (353) (io), 21 IO (351) (io), 22 IO (347) (io), 23 IO (345) (io), 24 IO (341) (io), 25 IO (333) (io), 31 CLK1p (329) (in), 34 CLK3p (324) (in), 35 IO (322) (io), 36 IO (319) (io), 37 IO (318) (io), 40 IO (311) (io), 41 IO (305) (io), 43 IO (301) (io), 44 IO (299) (io), 45 VCCIO4 (power), 46 IO (295) (io), 47 IO (293) (io), 48 IO (287) (io), 49 IO (281) (io), 50 IO (279) (io), 53 IO (275) (io), 54 IO (269) (io), 55 IO (264) (io), 57 IO (259) (io), 58 IO (257) (io), 59 IO (251) (io), 61 IO (247) (io), 62 IO (245) (io), 63 IO (244) (io), 64 IO (242) (io), 65 IO (240) (io), 66 IO (238) (io), 67 VCCIO5 (power), 68 IO (235) (io), 69 IO (234) (io), 70 IO (233) (io), 71 IO (232) (io), 72 IO (231) (io), 73 IO (229) (io), 74 IO (227) (io), 75 IO (226) (io), 76 IO (224) (io), 77 IO (223) (io), 79 IO (222) (io), 80 IO (221) (io), 81 IO (220) (io), 82 IO (218) (io), 83 IO (217) (io), 84 IO (216) (io), 85 IO (215) (io), 88 FAST3 (212) (io), 91 FAST4 (203) (io), 94 IO (200) (io), 95 IO (198) (io), 96 IO (197) (io), 97 VCCIO6 (power), 98 IO (195) (io), 99 IO (194) (io), 100 IO (193) (io), 101 IO (191) (io), 102 IO (190) (io), 103 IO (187) (io), 104 IO (186) (io), 105 IO (185) (io), 106 IO (184) (io), 107 IO (183) (io), 109 IO (181) (io), 110 IO (180) (io), 111 IO (179) (io), 112 IO (177) (io), 113 IO (176) (io), 114 IO (175) (io), 115 IO (173) (io), 116 IO (171) (io), 117 IO (170) (io), 118 IO (169) (io), 119 IO (168) (io), 120 VCCIO6 (power), 121 IO (164) (io), 123 IO (158) (io), 124 IO (152) (io), 125 IO (146) (io), 126 IO (140) (io), 129 IO (134) (io), 130 IO (130) (io), 131 IO (128) (io), 133 IO (123) (io), 134 IO (116) (io), 135 IO/LOCK4 (110) (io), 136 IO (108) (io), 138 IO/LOCK2 (98) (io), 143 IO/DEV_OE (90) (io), 148 VCCIO7 (power), 151 CLK2p (82) (in), 154 CLK4p (77) (in), 156 IO/DEV_CLRn (71) (io), 157 IO/CS (69) (io), 160 IO/nCS (56) (io), 161 IO/nRS (50) (io), 163 IO (44) (io), 164 IO/nWS (38) (io), 166 IO/DATA7 (32) (io), 169 IO/DATA6 (26) (io), 170 IO (24) (io), 171 IO (20) (io), 172 IO (18) (io), 173 IO (14) (io), 174 IO (12) (io), 177 VCCIO8 (power), 178 IO (8) (io), 180 IO (2) (io), 181 IO/DATA5 (489) (io), 182 IO (488) (io), 183 IO (487) (io), 184 IO (486) (io), 185 IO/DATA4 (485) (io), 186 IO (483) (io), 187 IO (482) (io), 189 IO/DATA3 (481) (io), 190 IO (480) (io), 191 IO (478) (io), 192 IO (476) (io), 193 IO (475) (io), 194 IO (474) (io), 195 IO/DATA2 (472) (io), 196 IO (471) (io), 197 IO (470) (io), 198 IO (469) (io), 199 VCCIO1 (power), 200 IO/DATA1 (465) (io), 201 IO (464) (io), 202 IO (463) (io), 203 IO (462) (io), 204 IO/CLKUSR (461) (io), 205 IO/RDYnBSY (459) (io), 206 IO/INIT_DONE (458) (io), 207 IO (457) (io), 209 FAST2 (454) (io), 212 FAST1 (447) (io), 215 IO (444) (io), 216 IO (443) (io), 217 IO (442) (io), 219 IO (439) (io), 220 IO (437) (io), 221 IO (436) (io), 222 IO (435) (io), 223 IO (434) (io), 224 IO (432) (io), 225 IO (431) (io), 226 IO (430) (io), 227 IO (429) (io), 228 IO (427) (io), 229 VCCIO2 (power), 230 IO (424) (io), 231 IO (423) (io), 232 IO (422) (io), 233 IO (420) (io), 234 IO (419) (io), 235 IO (417) (io), 236 IO (415) (io), 237 IO (413) (io), 238 IO (412) (io), 239 IO (411) (io)
part B pins: 29 MSEL0 (331) (in), 30 MSEL1 (330) (in), 32 CLKLK_ENA (328) (in), 33 nCONFIG (327) (in), 86 TMS (214) (in), 87 TCK (213) (in), 92 nSTATUS (202) (io), 93 CONF_DONE (201) (io), 139 CLKLK_OUT2p (93) (out), 149 TDI (84) (in), 150 nCE (83) (in), 152 DCLK (81) (in), 153 DATA0 (80) (in), 155 CLKLK_FB2p (75) (in), 208 TDO (455) (out), 213 nCEO (446) (out), 214 TRST (445) (in)
part C pins: 1 VCCINT (power), 5 VCCINT (power), 6 GND (power), 14 VCCINT (power), 15 GND (power), 19 GND (power), 26 GND (power), 27 VCCINT (power), 28 GND (power), 38 GND (power), 39 VCCINT (power), 42 GND (power), 51 GND (power), 52 VCCINT (power), 56 GND (power), 60 VCCINT (power), 78 GND (power), 89 GND (power), 90 VCCINT (power), 108 GND (power), 122 VCCINT (power), 127 VCCINT (power), 128 GND (power), 132 GND (power), 137 GND (power), 140 VCCINT (power), 141 GND_CKOUT2 (92) (power), 142 VCC_CKOUT2 (91) (power), 144 VCC_CKLK2 (89) (power), 145 VCCINT (power), 146 GND (power), 147 GND_CKLK2 (86/87) (power), 158 GND_CKLK4 (67/68) (power), 159 VCC_CKLK4 (66) (power), 162 GND (power), 165 GND (power), 167 GND (power), 168 VCCINT (power), 175 GND (power), 176 VCCINT (power), 179 VCCINT (power), 188 GND (power), 210 VCCINT (power), 211 GND (power), 218 GND (power), 240 GND (power)

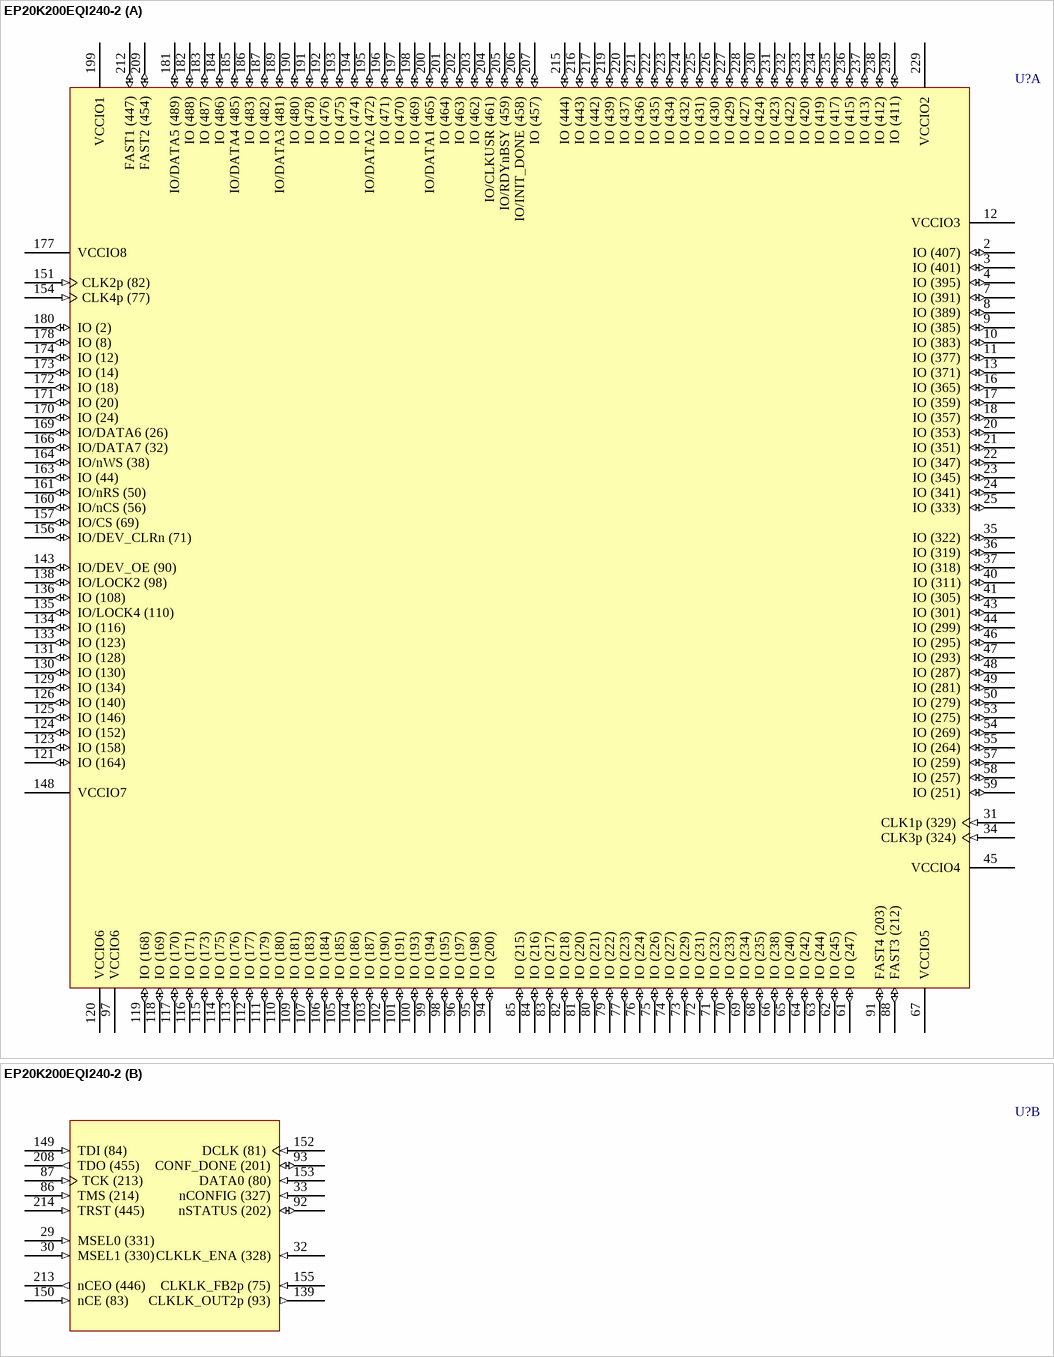
[diagram p216: symbol EP20K200EQI240-2]

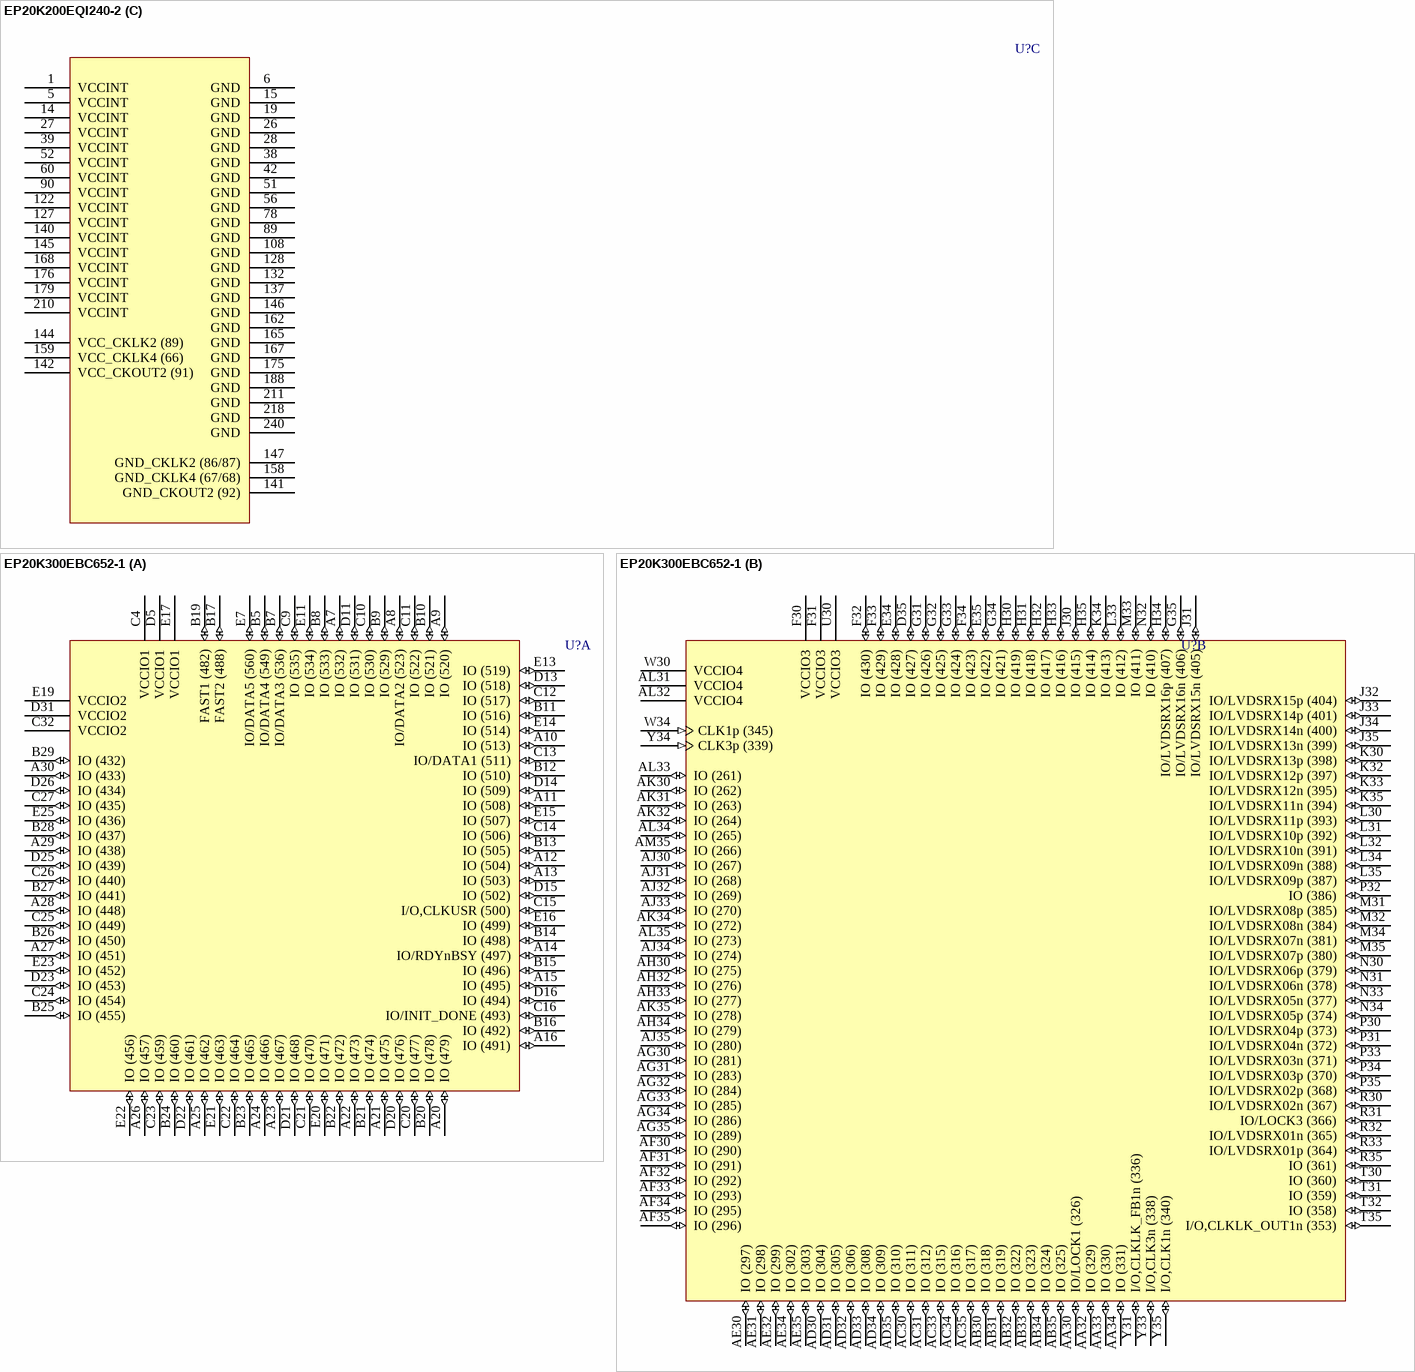
[diagram p217: symbols EP20K200EQI240-2 to EP20K300EBC652-1]

## EP20K200EQI240-2
designator U?
APEX 20K200E PLD, 240-Pin PQFP, Industrial Grade, Speed Grade 2; Published: 17-Jul-2002; LatestRevisionDate: 13-Apr-2006; LatestRevisionNote: IPC-7351 Footprint Added.; DatasheetVersion: Mar-2004; PackageVersion: ver14.1, Oct-2005; PackageReference: PQFP240; Publisher: Altium Limited; PackageDescription: 240-Pin Plastic Quad Flat Pack (PQFP240); Code_JEDEC: MS-029-GA; ComponentLink1Description: Manufacturer Link; ComponentLink1URL: http://www.altera.com/products/devices/apex/apx-index.html; ComponentLink2Description: Datasheet; ComponentLink2URL: http://www.altera.com/literature/ds/apex.pdf
footprint PQFP240_N (Shrink QFP, 240-Leads, Body 32x32mm, Pitch 0.5mm, IPC Medium Density)
footprint PQFP240_L (Shrink QFP, 240-Leads, Body 32x32mm, Pitch 0.5mm, IPC High Density)
footprint PQFP240_M (Shrink QFP, 240-Leads, Body 32x32mm, Pitch 0.5mm, IPC Low Density)
3D model EP20K200E-PQFP240 (240-Pin Plastic Quad Flat Pack (PQFP240))
part A pins: 2 IO (407) (io), 3 IO (401) (io), 4 IO (395) (io), 7 IO (391) (io), 8 IO (389) (io), 9 IO (385) (io), 10 IO (383) (io), 11 IO (377) (io), 12 VCCIO3 (power), 13 IO (371) (io), 16 IO (365) (io), 17 IO (359) (io), 18 IO (357) (io), 20 IO (353) (io), 21 IO (351) (io), 22 IO (347) (io), 23 IO (345) (io), 24 IO (341) (io), 25 IO (333) (io), 31 CLK1p (329) (in), 34 CLK3p (324) (in), 35 IO (322) (io), 36 IO (319) (io), 37 IO (318) (io), 40 IO (311) (io), 41 IO (305) (io), 43 IO (301) (io), 44 IO (299) (io), 45 VCCIO4 (power), 46 IO (295) (io), 47 IO (293) (io), 48 IO (287) (io), 49 IO (281) (io), 50 IO (279) (io), 53 IO (275) (io), 54 IO (269) (io), 55 IO (264) (io), 57 IO (259) (io), 58 IO (257) (io), 59 IO (251) (io), 61 IO (247) (io), 62 IO (245) (io), 63 IO (244) (io), 64 IO (242) (io), 65 IO (240) (io), 66 IO (238) (io), 67 VCCIO5 (power), 68 IO (235) (io), 69 IO (234) (io), 70 IO (233) (io), 71 IO (232) (io), 72 IO (231) (io), 73 IO (229) (io), 74 IO (227) (io), 75 IO (226) (io), 76 IO (224) (io), 77 IO (223) (io), 79 IO (222) (io), 80 IO (221) (io), 81 IO (220) (io), 82 IO (218) (io), 83 IO (217) (io), 84 IO (216) (io), 85 IO (215) (io), 88 FAST3 (212) (io), 91 FAST4 (203) (io), 94 IO (200) (io), 95 IO (198) (io), 96 IO (197) (io), 97 VCCIO6 (power), 98 IO (195) (io), 99 IO (194) (io), 100 IO (193) (io), 101 IO (191) (io), 102 IO (190) (io), 103 IO (187) (io), 104 IO (186) (io), 105 IO (185) (io), 106 IO (184) (io), 107 IO (183) (io), 109 IO (181) (io), 110 IO (180) (io), 111 IO (179) (io), 112 IO (177) (io), 113 IO (176) (io), 114 IO (175) (io), 115 IO (173) (io), 116 IO (171) (io), 117 IO (170) (io), 118 IO (169) (io), 119 IO (168) (io), 120 VCCIO6 (power), 121 IO (164) (io), 123 IO (158) (io), 124 IO (152) (io), 125 IO (146) (io), 126 IO (140) (io), 129 IO (134) (io), 130 IO (130) (io), 131 IO (128) (io), 133 IO (123) (io), 134 IO (116) (io), 135 IO/LOCK4 (110) (io), 136 IO (108) (io), 138 IO/LOCK2 (98) (io), 143 IO/DEV_OE (90) (io), 148 VCCIO7 (power), 151 CLK2p (82) (in), 154 CLK4p (77) (in), 156 IO/DEV_CLRn (71) (io), 157 IO/CS (69) (io), 160 IO/nCS (56) (io), 161 IO/nRS (50) (io), 163 IO (44) (io), 164 IO/nWS (38) (io), 166 IO/DATA7 (32) (io), 169 IO/DATA6 (26) (io), 170 IO (24) (io), 171 IO (20) (io), 172 IO (18) (io), 173 IO (14) (io), 174 IO (12) (io), 177 VCCIO8 (power), 178 IO (8) (io), 180 IO (2) (io), 181 IO/DATA5 (489) (io), 182 IO (488) (io), 183 IO (487) (io), 184 IO (486) (io), 185 IO/DATA4 (485) (io), 186 IO (483) (io), 187 IO (482) (io), 189 IO/DATA3 (481) (io), 190 IO (480) (io), 191 IO (478) (io), 192 IO (476) (io), 193 IO (475) (io), 194 IO (474) (io), 195 IO/DATA2 (472) (io), 196 IO (471) (io), 197 IO (470) (io), 198 IO (469) (io), 199 VCCIO1 (power), 200 IO/DATA1 (465) (io), 201 IO (464) (io), 202 IO (463) (io), 203 IO (462) (io), 204 IO/CLKUSR (461) (io), 205 IO/RDYnBSY (459) (io), 206 IO/INIT_DONE (458) (io), 207 IO (457) (io), 209 FAST2 (454) (io), 212 FAST1 (447) (io), 215 IO (444) (io), 216 IO (443) (io), 217 IO (442) (io), 219 IO (439) (io), 220 IO (437) (io), 221 IO (436) (io), 222 IO (435) (io), 223 IO (434) (io), 224 IO (432) (io), 225 IO (431) (io), 226 IO (430) (io), 227 IO (429) (io), 228 IO (427) (io), 229 VCCIO2 (power), 230 IO (424) (io), 231 IO (423) (io), 232 IO (422) (io), 233 IO (420) (io), 234 IO (419) (io), 235 IO (417) (io), 236 IO (415) (io), 237 IO (413) (io), 238 IO (412) (io), 239 IO (411) (io)
part B pins: 29 MSEL0 (331) (in), 30 MSEL1 (330) (in), 32 CLKLK_ENA (328) (in), 33 nCONFIG (327) (in), 86 TMS (214) (in), 87 TCK (213) (in), 92 nSTATUS (202) (io), 93 CONF_DONE (201) (io), 139 CLKLK_OUT2p (93) (out), 149 TDI (84) (in), 150 nCE (83) (in), 152 DCLK (81) (in), 153 DATA0 (80) (in), 155 CLKLK_FB2p (75) (in), 208 TDO (455) (out), 213 nCEO (446) (out), 214 TRST (445) (in)
part C pins: 1 VCCINT (power), 5 VCCINT (power), 6 GND (power), 14 VCCINT (power), 15 GND (power), 19 GND (power), 26 GND (power), 27 VCCINT (power), 28 GND (power), 38 GND (power), 39 VCCINT (power), 42 GND (power), 51 GND (power), 52 VCCINT (power), 56 GND (power), 60 VCCINT (power), 78 GND (power), 89 GND (power), 90 VCCINT (power), 108 GND (power), 122 VCCINT (power), 127 VCCINT (power), 128 GND (power), 132 GND (power), 137 GND (power), 140 VCCINT (power), 141 GND_CKOUT2 (92) (power), 142 VCC_CKOUT2 (91) (power), 144 VCC_CKLK2 (89) (power), 145 VCCINT (power), 146 GND (power), 147 GND_CKLK2 (86/87) (power), 158 GND_CKLK4 (67/68) (power), 159 VCC_CKLK4 (66) (power), 162 GND (power), 165 GND (power), 167 GND (power), 168 VCCINT (power), 175 GND (power), 176 VCCINT (power), 179 VCCINT (power), 188 GND (power), 210 VCCINT (power), 211 GND (power), 218 GND (power), 240 GND (power)

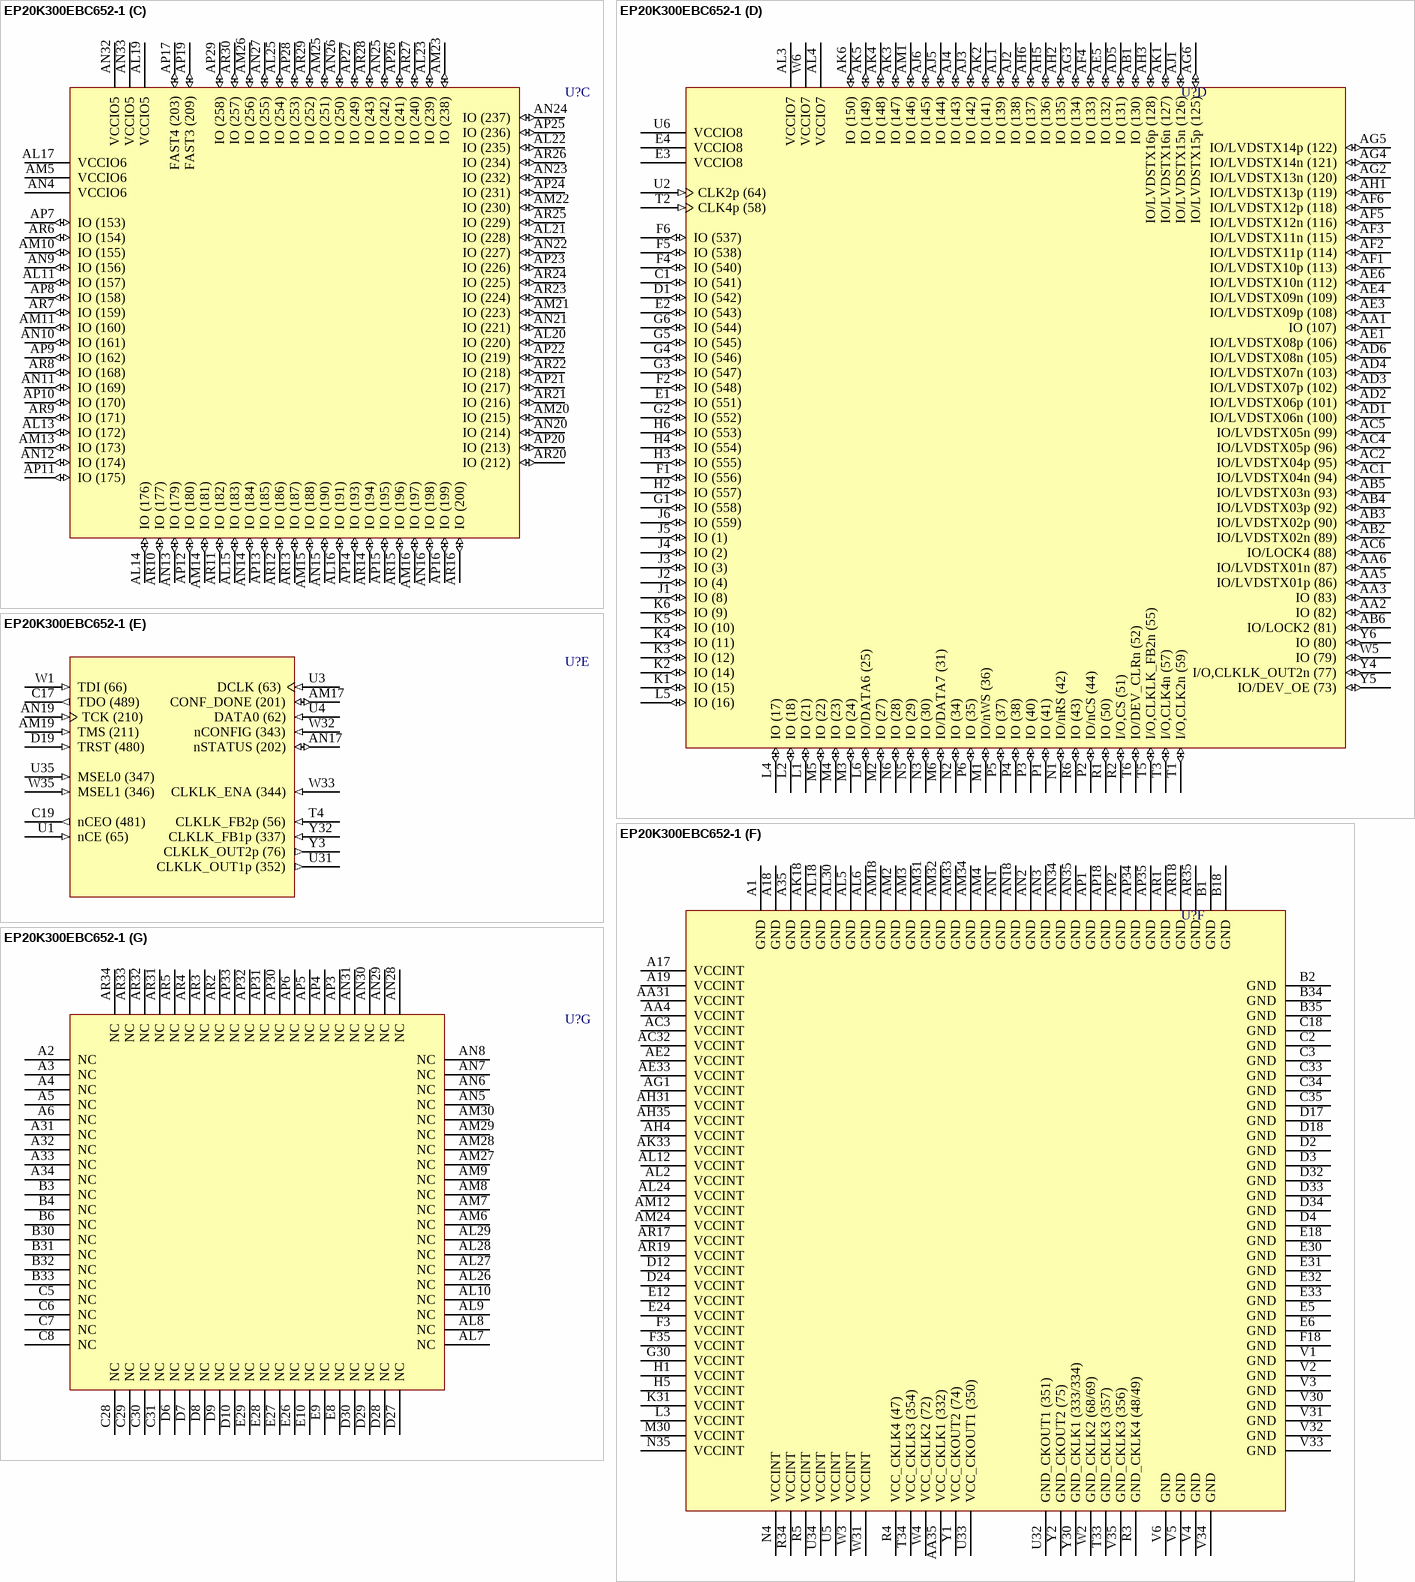
[diagram p218: symbol EP20K300EBC652-1]

## EP20K300EBC652-1
designator U?
APEX 20K300E PLD, 652-Pin BGA, Commercial Grade, Speed Grade 1; Published: 17-Jul-2002; LatestRevisionDate: 13-Apr-2006; LatestRevisionNote: IPC-7351 Footprint Added.; DatasheetVersion: Mar-2004; PackageVersion: ver14.1, Oct-2005; PackageReference: BGA652; Publisher: Altium Limited; PackageDescription: 652-Ball Ball Grid Array (BGA652); Code_JEDEC: MO-192-BAW-1; ComponentLink1Description: Manufacturer Link; ComponentLink1URL: http://www.altera.com/products/devices/apex/apx-index.html; ComponentLink2Description: Datasheet; ComponentLink2URL: http://www.altera.com/literature/ds/apex.pdf
footprint BGA652 (BGA, 652-Leads, Body 45x45mm, Pitch 1.27mm)
3D model EP20K300E-BGA652 (652-Ball Ball Grid Array (BGA652))
part A pins: A7 IO (532) (io), A8 IO/DATA2 (523) (io), A9 IO (520) (io), A10 IO (513) (io), A11 IO (508) (io), A12 IO (504) (io), A13 IO (503) (io), A14 IO/RDYnBSY (497) (io), A15 IO (495) (io), A16 IO (491) (io), A20 IO (479) (io), A21 IO (475) (io), A22 IO (473) (io), A23 IO (467) (io), A24 IO (466) (io), A25 IO (462) (io), A26 IO (457) (io), A27 IO (451) (io), A28 IO (448) (io), A29 IO (438) (io), A30 IO (433) (io), B5 IO/DATA4 (549) (io), B7 IO/DATA3 (536) (io), B8 IO (533) (io), B9 IO (529) (io), B10 IO (521) (io), B11 IO (516) (io), B12 IO (510) (io), B13 IO (505) (io), B14 IO (498) (io), B15 IO (496) (io), B16 IO (492) (io), B17 FAST2 (488) (io), B19 FAST1 (482) (io), B20 IO (478) (io), B21 IO (474) (io), B22 IO (472) (io), B23 IO (465) (io), B24 IO (460) (io), B25 IO (455) (io), B26 IO (450) (io), B27 IO (441) (io), B28 IO (437) (io), B29 IO (432) (io), C4 VCCIO1 (power), C9 IO (535) (io), C10 IO (530) (io), C11 IO (522) (io), C12 IO (517) (io), C13 IO/DATA1 (511) (io), C14 IO (506) (io), C15 I/O,CLKUSR (500) (io), C16 IO/INIT_DONE (493) (io), C20 IO (477) (io), C21 IO (470) (io), C22 IO (464) (io), C23 IO (459) (io), C24 IO (454) (io), C25 IO (449) (io), C26 IO (440) (io), C27 IO (435) (io), C32 VCCIO2 (power), D5 VCCIO1 (power), D11 IO (531) (io), D13 IO (518) (io), D14 IO (509) (io), D15 IO (502) (io), D16 IO (494) (io), D20 IO (476) (io), D21 IO (468) (io), D22 IO (461) (io), D23 IO (453) (io), D25 IO (439) (io), D26 IO (434) (io), D31 VCCIO2 (power), E7 IO/DATA5 (560) (io), E11 IO (534) (io), E13 IO (519) (io), E14 IO (514) (io), E15 IO (507) (io), E16 IO (499) (io), E17 VCCIO1 (power), E19 VCCIO2 (power), E20 IO (471) (io), E21 IO (463) (io), E22 IO (456) (io), E23 IO (452) (io), E25 IO (436) (io)
part B pins: AA30 IO/LOCK1 (326) (io), AA32 IO (329) (io), AA33 IO (330) (io), AA34 IO (331) (io), AB30 IO (318) (io), AB31 IO (319) (io), AB32 IO (322) (io), AB33 IO (323) (io), AB34 IO (324) (io), AB35 IO (325) (io), AC30 IO (311) (io), AC31 IO (312) (io), AC33 IO (315) (io), AC34 IO (316) (io), AC35 IO (317) (io), AD30 IO (304) (io), AD31 IO (305) (io), AD32 IO (306) (io), AD33 IO (308) (io), AD34 IO (309) (io), AD35 IO (310) (io), AE30 IO (297) (io), AE31 IO (298) (io), AE32 IO (299) (io), AE34 IO (302) (io), AE35 IO (303) (io), AF30 IO (290) (io), AF31 IO (291) (io), AF32 IO (292) (io), AF33 IO (293) (io), AF34 IO (295) (io), AF35 IO (296) (io), AG30 IO (281) (io), AG31 IO (283) (io), AG32 IO (284) (io), AG33 IO (285) (io), AG34 IO (286) (io), AG35 IO (289) (io), AH30 IO (275) (io), AH32 IO (276) (io), AH33 IO (277) (io), AH34 IO (279) (io), AJ30 IO (267) (io), AJ31 IO (268) (io), AJ32 IO (269) (io), AJ33 IO (270) (io), AJ34 IO (274) (io), AJ35 IO (280) (io), AK30 IO (262) (io), AK31 IO (263) (io), AK32 IO (264) (io), AK34 IO (272) (io), AK35 IO (278) (io), AL31 VCCIO4 (power), AL32 VCCIO4 (power), AL33 IO (261) (io), AL34 IO (265) (io), AL35 IO (273) (io), AM35 IO (266) (io), D35 IO (427) (io), E34 IO (428) (io), E35 IO (422) (io), F30 VCCIO3 (power), F31 VCCIO3 (power), F32 IO (430) (io), F33 IO (429) (io), F34 IO (423) (io), G31 IO (426) (io), G32 IO (425) (io), G33 IO (424) (io), G34 IO (421) (io), G35 IO/LVDSRX16n (406) (io), H30 IO (419) (io), H31 IO (418) (io), H32 IO (417) (io), H33 IO (416) (io), H34 IO/LVDSRX16p (407) (io), H35 IO (414) (io), J30 IO (415) (io), J31 IO/LVDSRX15n (405) (io), J32 IO/LVDSRX15p (404) (io), J33 IO/LVDSRX14p (401) (io), J34 IO/LVDSRX14n (400) (io), J35 IO/LVDSRX13n (399) (io), K30 IO/LVDSRX13p (398) (io), K32 IO/LVDSRX12p (397) (io), K33 IO/LVDSRX12n (395) (io), K34 IO (413) (io), K35 IO/LVDSRX11n (394) (io), L30 IO/LVDSRX11p (393) (io), L31 IO/LVDSRX10p (392) (io), L32 IO/LVDSRX10n (391) (io), L33 IO (412) (io), L34 IO/LVDSRX09n (388) (io), L35 IO/LVDSRX09p (387) (io), M31 IO/LVDSRX08p (385) (io), M32 IO/LVDSRX08n (384) (io), M33 IO (411) (io), M34 IO/LVDSRX07n (381) (io), M35 IO/LVDSRX07p (380) (io), N30 IO/LVDSRX06p (379) (io), N31 IO/LVDSRX06n (378) (io), N32 IO (410) (io), N33 IO/LVDSRX05n (377) (io), N34 IO/LVDSRX05p (374) (io), P30 IO/LVDSRX04p (373) (io), P31 IO/LVDSRX04n (372) (io), P32 IO (386) (io), P33 IO/LVDSRX03n (371) (io), P34 IO/LVDSRX03p (370) (io), P35 IO/LVDSRX02p (368) (io), R30 IO/LVDSRX02n (367) (io), R31 IO/LOCK3 (366) (io), R32 IO/LVDSRX01n (365) (io), R33 IO/LVDSRX01p (364) (io), R35 IO (361) (io), T30 IO (360) (io), T31 IO (359) (io), T32 IO (358) (io), T35 I/O,CLKLK_OUT1n (353) (io), U30 VCCIO3 (power), W30 VCCIO4 (power), W34 CLK1p (345) (in), Y31 I/O,CLKLK_FB1n (336) (io), Y33 I/O,CLK3n (338) (io), Y34 CLK3p (339) (in), Y35 I/O,CLK1n (340) (io)
part C pins: AL11 IO (157) (io), AL13 IO (172) (io), AL14 IO (176) (io), AL15 IO (183) (io), AL16 IO (191) (io), AL17 VCCIO6 (power), AL19 VCCIO5 (power), AL20 IO (220) (io), AL21 IO (228) (io), AL22 IO (235) (io), AL23 IO (239) (io), AL25 IO (254) (io), AM5 VCCIO6 (power), AM10 IO (155) (io), AM11 IO (160) (io), AM13 IO (173) (io), AM14 IO (181) (io), AM15 IO (188) (io), AM16 IO (197) (io), AM20 IO (215) (io), AM21 IO (223) (io), AM22 IO (230) (io), AM23 IO (238) (io), AM25 IO (251) (io), AM26 IO (256) (io), AN4 VCCIO6 (power), AN9 IO (156) (io), AN10 IO (161) (io), AN11 IO (169) (io), AN12 IO (174) (io), AN13 IO (179) (io), AN14 IO (184) (io), AN15 IO (190) (io), AN16 IO (198) (io), AN20 IO (214) (io), AN21 IO (221) (io), AN22 IO (227) (io), AN23 IO (232) (io), AN24 IO (237) (io), AN25 IO (242) (io), AN26 IO (250) (io), AN27 IO (255) (io), AN32 VCCIO5 (power), AN33 VCCIO5 (power), AP7 IO (153) (io), AP8 IO (158) (io), AP9 IO (162) (io), AP10 IO (170) (io), AP11 IO (175) (io), AP12 IO (180) (io), AP13 IO (185) (io), AP14 IO (193) (io), AP15 IO (195) (io), AP16 IO (199) (io), AP17 FAST4 (203) (io), AP19 FAST3 (209) (io), AP20 IO (213) (io), AP21 IO (217) (io), AP22 IO (219) (io), AP23 IO (226) (io), AP24 IO (231) (io), AP25 IO (236) (io), AP26 IO (241) (io), AP27 IO (249) (io), AP28 IO (253) (io), AP29 IO (258) (io), AR6 IO (154) (io), AR7 IO (159) (io), AR8 IO (168) (io), AR9 IO (171) (io), AR10 IO (177) (io), AR11 IO (182) (io), AR12 IO (186) (io), AR13 IO (187) (io), AR14 IO (194) (io), AR15 IO (196) (io), AR16 IO (200) (io), AR20 IO (212) (io), AR21 IO (216) (io), AR22 IO (218) (io), AR23 IO (224) (io), AR24 IO (225) (io), AR25 IO (229) (io), AR26 IO (234) (io), AR27 IO (240) (io), AR28 IO (243) (io), AR29 IO (252) (io), AR30 IO (257) (io)
part D pins: AA1 IO (107) (io), AA2 IO (82) (io), AA3 IO (83) (io), AA5 IO/LVDSTX01p (86) (io), AA6 IO/LVDSTX01n (87) (io), AB1 IO (130) (io), AB2 IO/LVDSTX02n (89) (io), AB3 IO/LVDSTX02p (90) (io), AB4 IO/LVDSTX03p (92) (io), AB5 IO/LVDSTX03n (93) (io), AB6 IO/LOCK2 (81) (io), AC1 IO/LVDSTX04n (94) (io), AC2 IO/LVDSTX04p (95) (io), AC4 IO/LVDSTX05p (96) (io), AC5 IO/LVDSTX05n (99) (io), AC6 IO/LOCK4 (88) (io), AD1 IO/LVDSTX06n (100) (io), AD2 IO/LVDSTX06p (101) (io), AD3 IO/LVDSTX07p (102) (io), AD4 IO/LVDSTX07n (103) (io), AD5 IO (131) (io), AD6 IO/LVDSTX08n (105) (io), AE1 IO/LVDSTX08p (106) (io), AE3 IO/LVDSTX09p (108) (io), AE4 IO/LVDSTX09n (109) (io), AE5 IO (132) (io), AE6 IO/LVDSTX10n (112) (io), AF1 IO/LVDSTX10p (113) (io), AF2 IO/LVDSTX11p (114) (io), AF3 IO/LVDSTX11n (115) (io), AF4 IO (133) (io), AF5 IO/LVDSTX12n (116) (io), AF6 IO/LVDSTX12p (118) (io), AG2 IO/LVDSTX13n (120) (io), AG3 IO (134) (io), AG4 IO/LVDSTX14n (121) (io), AG5 IO/LVDSTX14p (122) (io), AG6 IO/LVDSTX15p (125) (io), AH1 IO/LVDSTX13p (119) (io), AH2 IO (135) (io), AH3 IO/LVDSTX16p (128) (io), AH5 IO (136) (io), AH6 IO (137) (io), AJ1 IO/LVDSTX15n (126) (io), AJ2 IO (138) (io), AJ3 IO (142) (io), AJ4 IO (143) (io), AJ5 IO (144) (io), AJ6 IO (145) (io), AK1 IO/LVDSTX16n (127) (io), AK2 IO (141) (io), AK3 IO (147) (io), AK4 IO (148) (io), AK5 IO (149) (io), AK6 IO (150) (io), AL1 IO (139) (io), AL3 VCCIO7 (power), AL4 VCCIO7 (power), AM1 IO (146) (io), C1 IO (541) (io), D1 IO (542) (io), E1 IO (551) (io), E2 IO (543) (io), E3 VCCIO8 (power), E4 VCCIO8 (power), F1 IO (556) (io), F2 IO (548) (io), F4 IO (540) (io), F5 IO (538) (io), F6 IO (537) (io), G1 IO (558) (io), G2 IO (552) (io), G3 IO (547) (io), G4 IO (546) (io), G5 IO (545) (io), G6 IO (544) (io), H2 IO (557) (io), H3 IO (555) (io), H4 IO (554) (io), H6 IO (553) (io), J1 IO (8) (io), J2 IO (4) (io), J3 IO (3) (io), J4 IO (2) (io), J5 IO (1) (io), J6 IO (559) (io), K1 IO (15) (io), K2 IO (14) (io), K3 IO (12) (io), K4 IO (11) (io), K5 IO (10) (io), K6 IO (9) (io), L1 IO (21) (io), L2 IO (18) (io), L4 IO (17) (io), L5 IO (16) (io), L6 IO/DATA6 (25) (io), M1 IO/nWS (36) (io), M2 IO (27) (io), M3 IO (24) (io), M4 IO (23) (io), M5 IO (22) (io), M6 IO/DATA7 (31) (io), N1 IO/nRS (42) (io), N2 IO (34) (io), N3 IO (30) (io), N5 IO (29) (io), N6 IO (28) (io), P1 IO (41) (io), P2 IO/nCS (44) (io), P3 IO (40) (io), P4 IO (38) (io), P5 IO (37) (io), P6 IO (35) (io), R1 IO (50) (io), R2 I/O,CS (51) (io), R6 IO (43) (io), T1 I/O,CLK2n (59) (io), T2 CLK4p (58) (in), T3 I/O,CLK4n (57) (io), T5 I/O,CLKLK_FB2n (55) (io), T6 IO/DEV_CLRn (52) (io), U2 CLK2p (64) (in), U6 VCCIO8 (power), W5 IO (79) (io), W6 VCCIO7 (power), Y4 I/O,CLKLK_OUT2n (77) (io), Y5 IO/DEV_OE (73) (io), Y6 IO (80) (io)
part E pins: AM17 CONF_DONE (201) (io), AM19 TMS (211) (in), AN17 nSTATUS (202) (io), AN19 TCK (210) (in), C17 TDO (489) (out), C19 nCEO (481) (out), D19 TRST (480) (in), T4 CLKLK_FB2p (56) (in), U1 nCE (65) (in), U3 DCLK (63) (in), U4 DATA0 (62) (in), U31 CLKLK_OUT1p (352) (out), U35 MSEL0 (347) (in), W1 TDI (66) (in), W32 nCONFIG (343) (in), W33 CLKLK_ENA (344) (in), W35 MSEL1 (346) (in), Y3 CLKLK_OUT2p (76) (out), Y32 CLKLK_FB1p (337) (in)
part F pins: A1 GND (power), A17 VCCINT (power), A18 GND (power), A19 VCCINT (power), A35 GND (power), AA4 VCCINT (power), AA31 VCCINT (power), AA35 VCC_CKLK1 (332) (power), AC3 VCCINT (power), AC32 VCCINT (power), AE2 VCCINT (power), AE33 VCCINT (power), AG1 VCCINT (power), AH4 VCCINT (power), AH31 VCCINT (power), AH35 VCCINT (power), AK18 GND (power), AK33 VCCINT (power), AL2 VCCINT (power), AL5 GND (power), AL6 GND (power), AL12 VCCINT (power), AL18 GND (power), AL24 VCCINT (power), AL30 GND (power), AM2 GND (power), AM3 GND (power), AM4 GND (power), AM12 VCCINT (power), AM18 GND (power), AM24 VCCINT (power), AM31 GND (power), AM32 GND (power), AM33 GND (power), AM34 GND (power), AN1 GND (power), AN2 GND (power), AN3 GND (power), AN18 GND (power), AN34 GND (power), AN35 GND (power), AP1 GND (power), AP2 GND (power), AP18 GND (power), AP34 GND (power), AP35 GND (power), AR1 GND (power), AR17 VCCINT (power), AR18 GND (power), AR19 VCCINT (power), AR35 GND (power), B1 GND (power), B2 GND (power), B18 GND (power), B34 GND (power), B35 GND (power), C2 GND (power), C3 GND (power), C18 GND (power), C33 GND (power), C34 GND (power), C35 GND (power), D2 GND (power), D3 GND (power), D4 GND (power), D12 VCCINT (power), D17 GND (power), D18 GND (power), D24 VCCINT (power), D32 GND (power), D33 GND (power), D34 GND (power), E5 GND (power), E6 GND (power), E12 VCCINT (power), E18 GND (power), E24 VCCINT (power), E30 GND (power), E31 GND (power), E32 GND (power), E33 GND (power), F3 VCCINT (power), F18 GND (power), F35 VCCINT (power), G30 VCCINT (power), H1 VCCINT (power), H5 VCCINT (power), K31 VCCINT (power), L3 VCCINT (power), M30 VCCINT (power), N4 VCCINT (power), N35 VCCINT (power), R3 GND_CKLK4 (48/49) (power), R4 VCC_CKLK4 (47) (power), R5 VCCINT (power), R34 VCCINT (power), T33 GND_CKLK3 (357) (power), T34 VCC_CKLK3 (354) (power), U5 VCCINT (power), U32 GND_CKOUT1 (351) (power), U33 VCC_CKOUT1 (350) (power), U34 VCCINT (power), V1 GND (power), V2 GND (power), V3 GND (power), V4 GND (power), V5 GND (power), V6 GND (power), V30 GND (power), V31 GND (power), V32 GND (power), V33 GND (power), V34 GND (power), V35 GND_CKLK3 (356) (power), W2 GND_CKLK2 (68/69) (power), W3 VCCINT (power), W4 VCC_CKLK2 (72) (power), W31 VCCINT (power), Y1 VCC_CKOUT2 (74) (power), Y2 GND_CKOUT2 (75) (power), Y30 GND_CKLK1 (333/334) (power)
part G pins: A2 NC, A3 NC, A4 NC, A5 NC, A6 NC, A31 NC, A32 NC, A33 NC, A34 NC, AL7 NC, AL8 NC, AL9 NC, AL10 NC, AL26 NC, AL27 NC, AL28 NC, AL29 NC, AM6 NC, AM7 NC, AM8 NC, AM9 NC, AM27 NC, AM28 NC, AM29 NC, AM30 NC, AN5 NC, AN6 NC, AN7 NC, AN8 NC, AN28 NC, AN29 NC, AN30 NC, AN31 NC, AP3 NC, AP4 NC, AP5 NC, AP6 NC, AP30 NC, AP31 NC, AP32 NC, AP33 NC, AR2 NC, AR3 NC, AR4 NC, AR5 NC, AR31 NC, AR32 NC, AR33 NC, AR34 NC, B3 NC, B4 NC, B6 NC, B30 NC, B31 NC, B32 NC, B33 NC, C5 NC, C6 NC, C7 NC, C8 NC, C28 NC, C29 NC, C30 NC, C31 NC, D6 NC, D7 NC, D8 NC, D9 NC, D10 NC, D27 NC, D28 NC, D29 NC, D30 NC, E8 NC, E9 NC, E10 NC, E26 NC, E27 NC, E28 NC, E29 NC

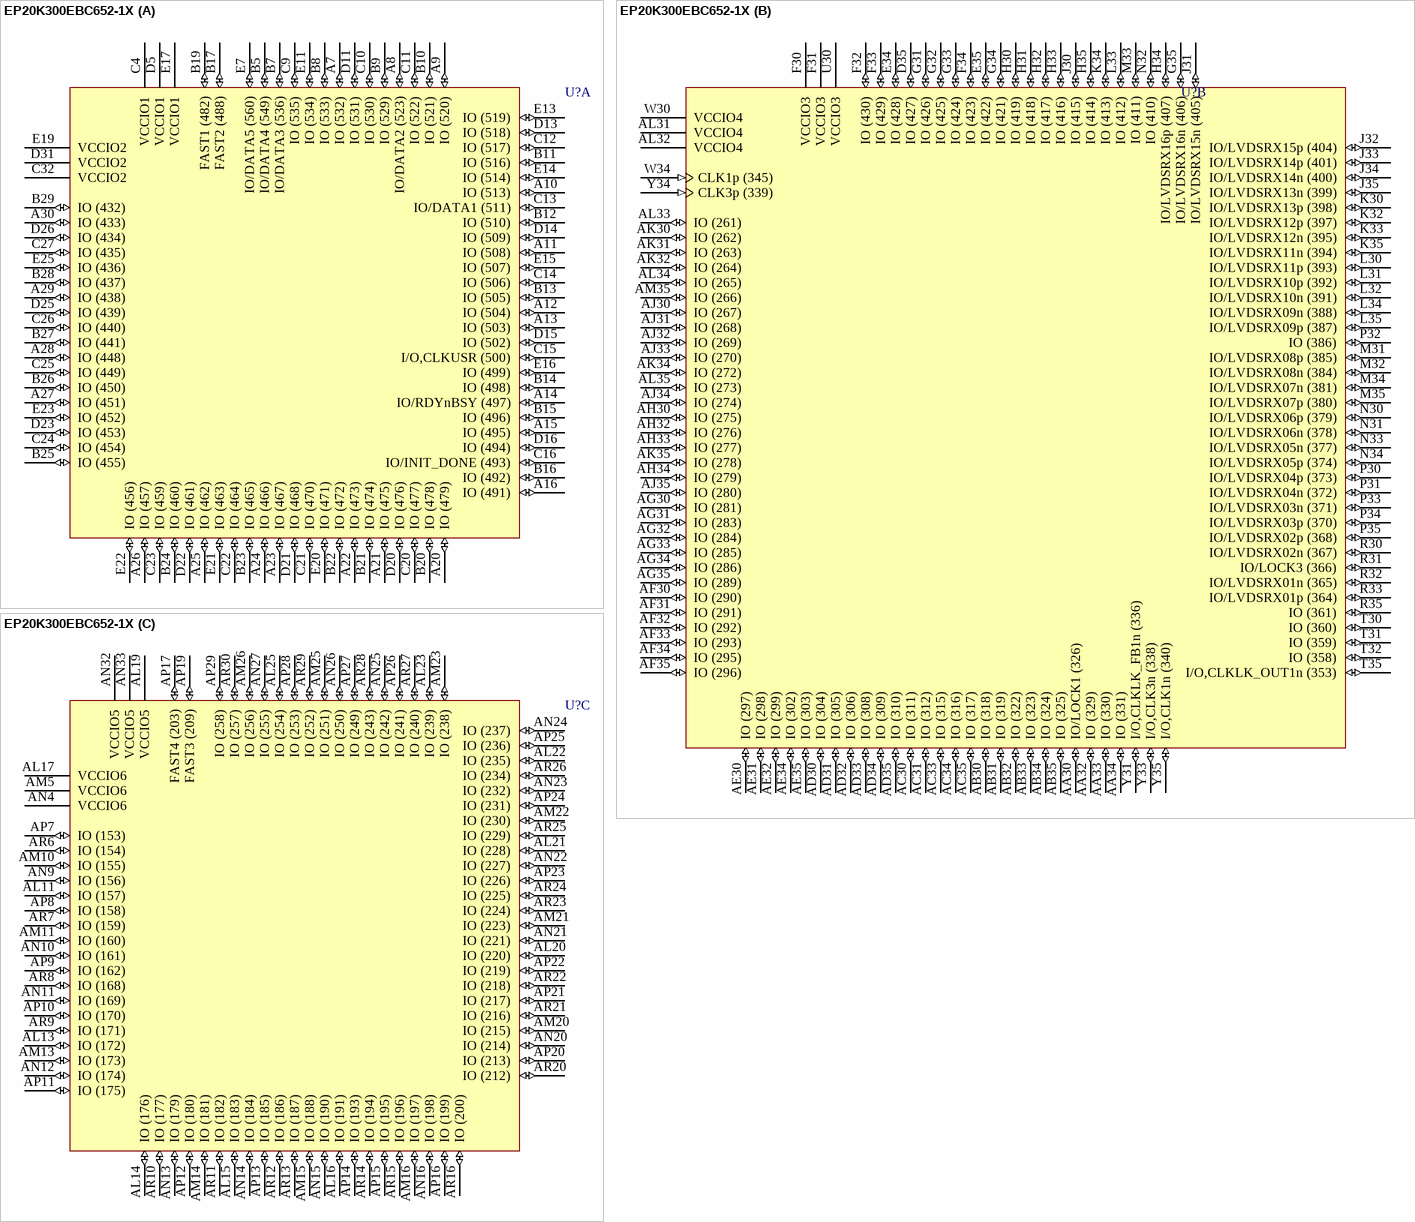
[diagram p219: symbol EP20K300EBC652-1X]

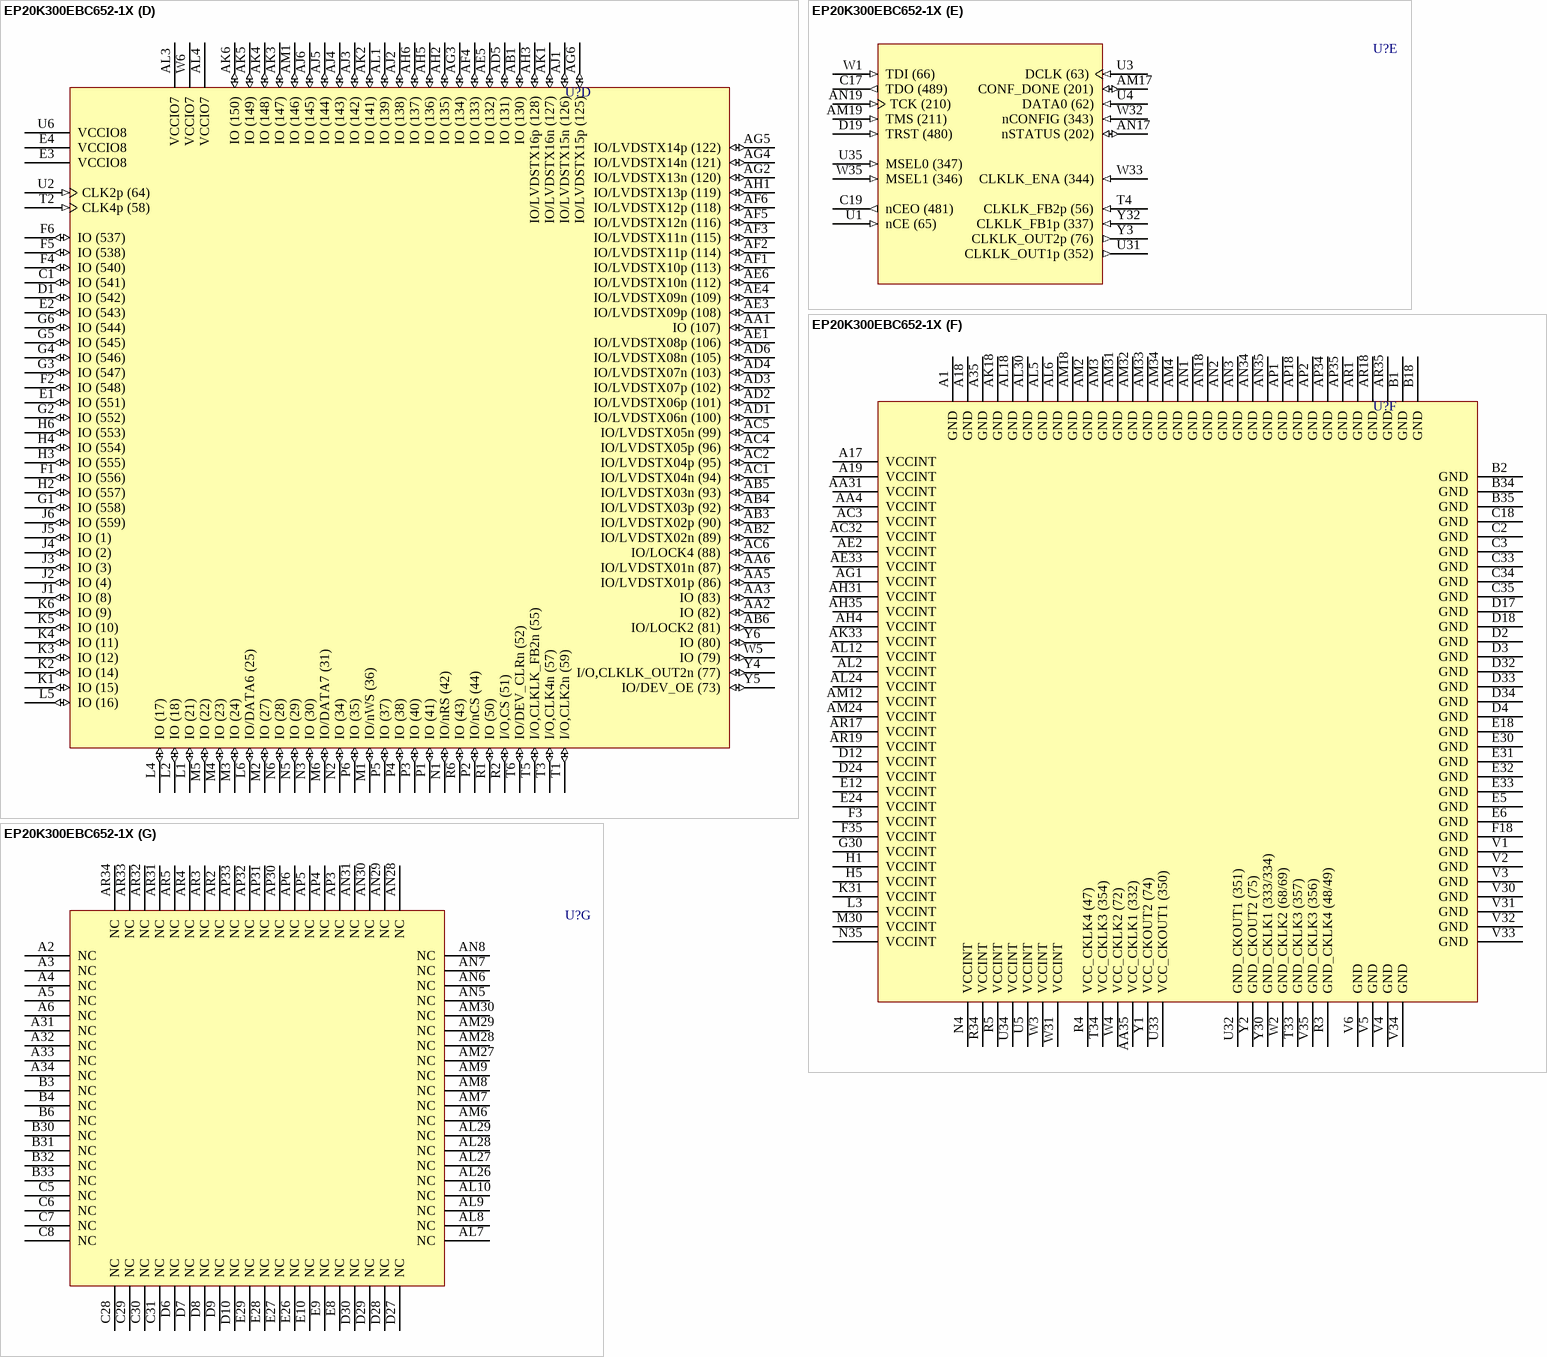
[diagram p220: symbol EP20K300EBC652-1X]